# Altium integrated library mylib1.IntLib: 209 symbols
Pins are listed as number, name and electrical type; pins without a type are passive.

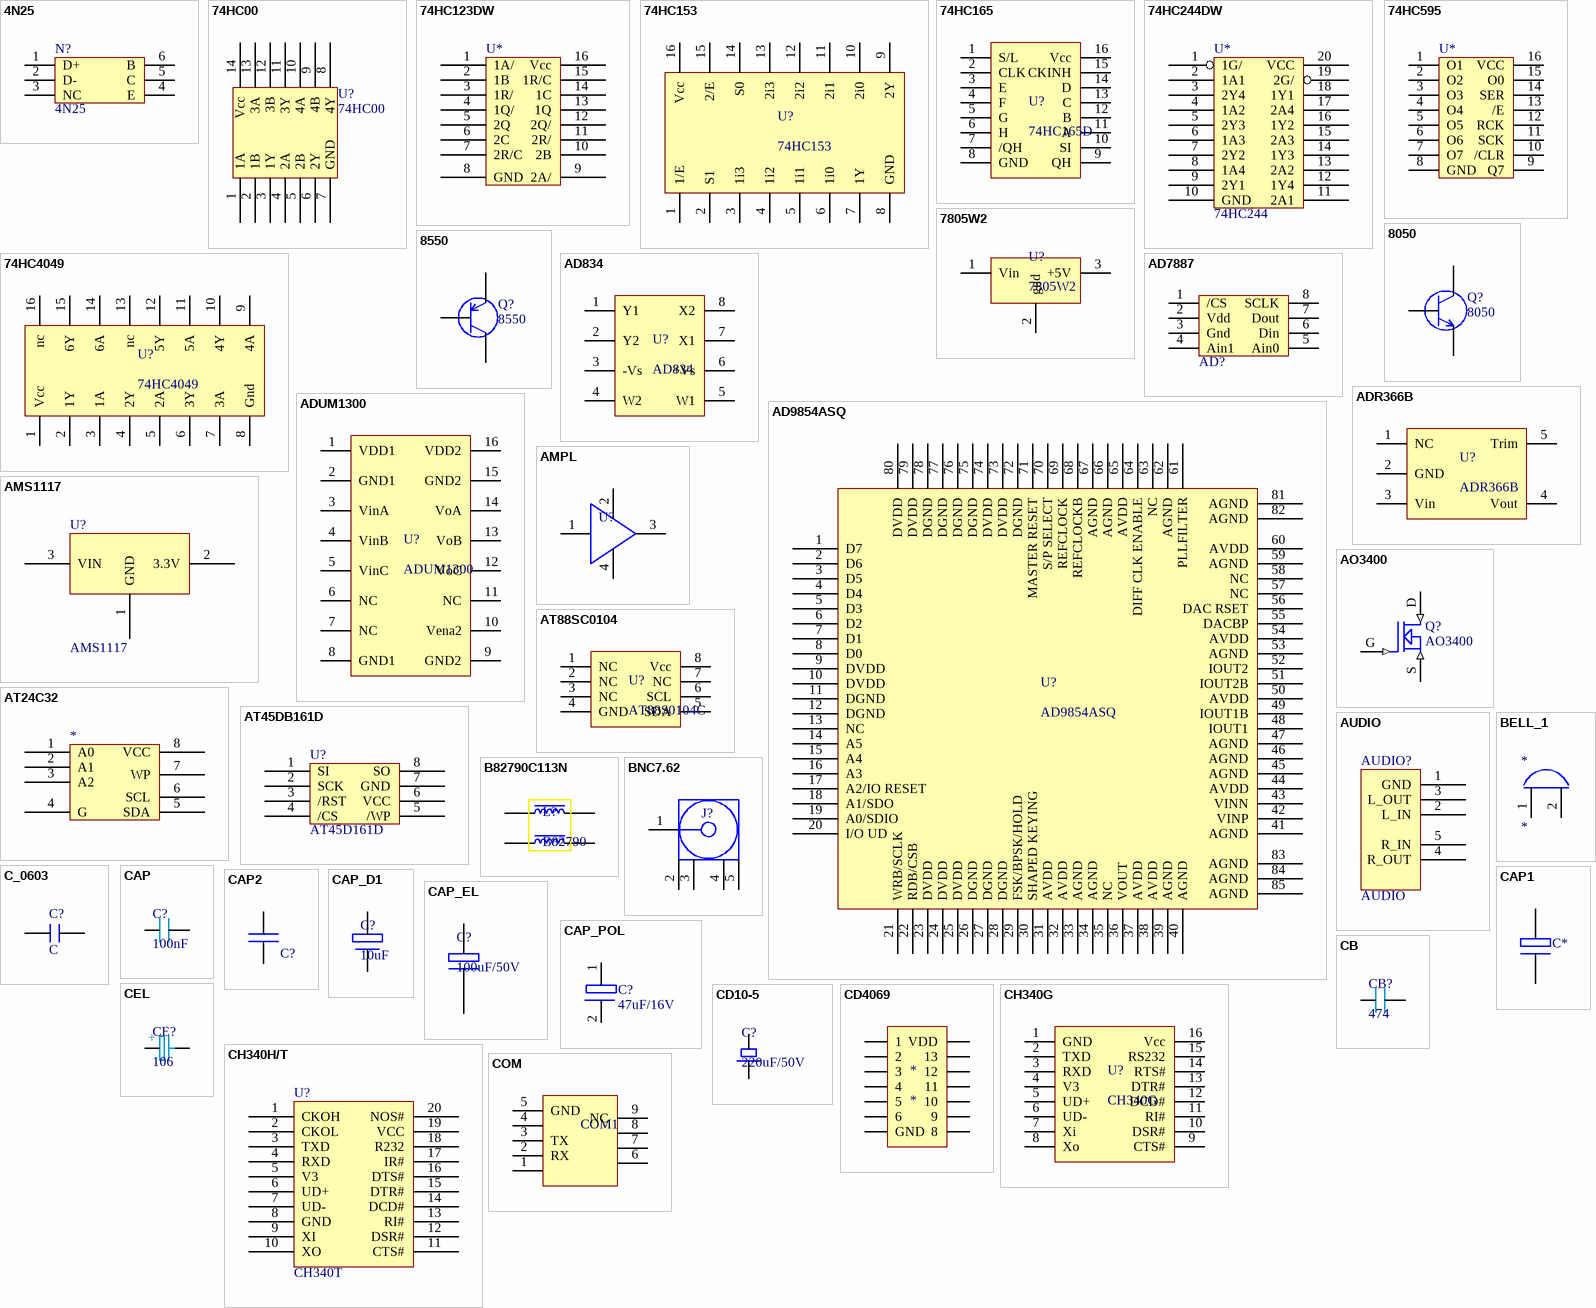
[diagram p0: symbols 4N25 to COM]

## 4N25
designator N?
footprint DIP6
pins: 1 D+, 2 D-, 3 NC, 4 E, 5 C, 6 B

## 74HC00
designator U?
footprint SO-G14
pins: 1 1A, 2 1B, 3 1Y, 4 2A, 5 2B, 6 2Y, 7 GND, 8 4Y, 9 4B, 10 4A, 11 3Y, 12 3B, 13 3A, 14 Vcc

## 74HC123DW
designator U*
footprint SOP16
pins: 1 1A/, 2 1B, 3 1R/, 4 1Q/, 5 2Q, 6 2C, 7 2R/C, 8 GND, 9 2A/, 10 2B, 11 2R/, 12 2Q/, 13 1Q, 14 1C, 15 1R/C, 16 Vcc

## 74HC153
designator U?
footprint SOP16
pins: 1 1/E, 2 S1, 3 1i3, 4 1i2, 5 1i1, 6 1i0, 7 1Y, 8 GND, 9 2Y, 10 2i0, 11 2i1, 12 2i2, 13 2i3, 14 S0, 15 2/E, 16 Vcc

## 74HC165
designator U?, comment 74HC165D
footprint SOP16
pins: 1 S/L, 2 CLK, 3 E, 4 F, 5 G, 6 H, 7 /QH, 8 GND, 9 QH, 10 SI, 11 A, 12 B, 13 C, 14 D, 15 CKINH, 16 Vcc

## 74HC244DW
designator U*, comment 74HC244
footprint SOP20
pins: 1 1G/, 2 1A1, 3 2Y4, 4 1A2, 5 2Y3, 6 1A3, 7 2Y2, 8 1A4, 9 2Y1, 10 GND, 11 2A1, 12 1Y4, 13 2A2, 14 1Y3, 15 2A3, 16 1Y2, 17 2A4, 18 1Y1, 19 2G/, 20 VCC

## 74HC595
designator U*
footprint SOP16
pins: 1 O1, 2 O2, 3 O3, 4 O4, 5 O5, 6 O6, 7 O7, 8 GND, 9 Q7, 10 /CLR, 11 SCK, 12 RCK, 13 /E, 14 SER, 15 O0, 16 VCC

## 74HC4049
designator U?
footprint SOP16
pins: 1 Vcc, 2 1Y, 3 1A, 4 2Y, 5 2A, 6 3Y, 7 3A, 8 Gnd, 9 4A, 10 4Y, 11 5A, 12 5Y, 13 nc, 14 6A, 15 6Y, 16 nc

## 7805W2
designator U?
footprint 7805W2
pins: 1 Vin, 2 gnd, 3 +5V

## 8050
designator Q?
footprint SOT23_NPN
pins: 1 B, 2 C, 3 E

## 8550
designator Q?
footprint SOT23_NPN
pins: 1 b, 2 c, 3 e

## AD834
designator U?
footprint DIP8
pins: 1 Y1, 2 Y2, 3 -Vs, 4 W2, 5 W1, 6 +Vs, 7 X1, 8 X2

## AD7887
designator AD?
footprint SOP8
pins: 1 /CS, 2 Vdd, 3 Gnd, 4 Ain1, 5 Ain0, 6 Din, 7 Dout, 8 SCLK

## AD9854ASQ
designator U?
footprint QFP65P1800X1800X245_HS-80M (QFP, 80-Leads, Body 18.0x18.0mm (max), Pitch 0.65mm, IPC Low Density)
pins: 1 D7, 2 D6, 3 D5, 4 D4, 5 D3, 6 D2, 7 D1, 8 D0, 9 DVDD, 10 DVDD, 11 DGND, 12 DGND, 13 NC, 14 A5, 15 A4, 16 A3, 17 A2/IO RESET, 18 A1/SDO, 19 A0/SDIO, 20 I/O UD, 21 WRB/SCLK, 22 RDB/CSB, 23 DVDD, 24 DVDD, 25 DVDD, 26 DGND, 27 DGND, 28 DGND, 29 FSK/BPSK/HOLD, 30 SHAPED KEYING, 31 AVDD, 32 AVDD, 33 AGND, 34 AGND, 35 NC, 36 VOUT, 37 AVDD, 38 AVDD, 39 AGND, 40 AGND, 41 AGND, 42 VINP, 43 VINN, 44 AVDD, 45 AGND, 46 AGND, 47 AGND, 48 IOUT1, 49 IOUT1B, 50 AVDD, 51 IOUT2B, 52 IOUT2, 53 AGND, 54 AVDD, 55 DACBP, 56 DAC RSET, 57 NC, 58 NC, 59 AGND, 60 AVDD, 61 PLLFILTER, 62 AGND, 63 NC, 64 DIFF CLK ENABLE, 65 AVDD, 66 AGND, 67 AGND, 68 REFCLOCKB, 69 REFCLOCK, 70 S/P SELECT, 71 MASTER RESET, 72 DGND, 73 DVDD, 74 DVDD, 75 DGND, 76 DGND, 77 DGND, 78 DGND, 79 DVDD, 80 DVDD, 81 AGND, 82 AGND, 83 AGND, 84 AGND, 85 AGND

## ADR366B
designator U?
footprint TSOT5
pins: 1 NC, 2 GND, 3 Vin, 4 Vout, 5 Trim

## ADUM1300
designator U?
footprint SOW-16
pins: 1 VDD1, 2 GND1, 3 VinA, 4 VinB, 5 VinC, 6 NC, 7 NC, 8 GND1, 9 GND2, 10 Vena2, 11 NC, 12 VoC, 13 VoB, 14 VoA, 15 GND2, 16 VDD2

## AMPL
designator U?  (value not drawn)
footprint AMP
pins: 1, 2, 3, 4

## AMS1117
designator U?
footprint SOT-223
pins: 1 GND, 2 3.3V, 3 VIN

## AO3400
designator Q?
footprint SOT-23NMOS
pins: D (in), G (in), S (in)

## AT24C32
designator *
footprint SOP8
pins: 1 A0, 2 A1, 3 A2, 4 G, 5 SDA, 6 SCL, 7 WP, 8 VCC

## AT45DB161D
designator U?, comment AT45D161D
footprint SOP8_AT
pins: 1 SI, 2 SCK, 3 /RST, 4 /CS, 5 /WP, 6 VCC, 7 GND, 8 SO

## AT88SC0104
designator U?, comment AT88S0104C
footprint SOP8
pins: 1 NC, 2 NC, 3 NC, 4 GND, 5 SDA, 6 SCL, 7 NC, 8 Vcc

## AUDIO
designator AUDIO?
footprint AUDIO_PCB
pins: 1 GND, 2 L_IN, 3 L_OUT, 4 R_OUT, 5 R_IN

## B82790C113N
designator L?, comment B82790
footprint B82790
pins: 1, 2, 3, 4

## BELL_1
designator *
footprint BELL_1
pins: 1, 2

## BNC7.62
designator J?
footprint BNC7.62
pins: 1, 2, 3, 4, 5

## C_0603
designator C?, comment C
footprint Cap_0603
pins: 1, 2

## CAP
designator C?, comment 100nF
footprint C0805
pins: 1, 2

## CAP1
designator C*
footprint CAP1
pins: 1, 2

## CAP2
designator C?
footprint Cap0805
pins: 1, 2

## CAP_D1
designator C?, comment 10uF
footprint CAP_D1
pins: 1, 2

## CAP_EL
designator C?, comment 100uF/50V
footprint CAP_2.54
pins: 1, 2

## CAP_POL
designator C?, comment 47uF/16V
footprint CAP_POL1
pins: 1, 2

## CB
designator CB?, comment 474
footprint C_1206
pins: 1, 2

## CD10-5
designator C?, comment 220uF/50V
footprint CD10-5
pins: 1, 2

## CD4069
designator *
footprint SO-G14
pins: 1, 2, 3, 4, 5, 6, 7 GND, 8, 9, 10, 11, 12, 13, 14 VDD

## CEL
designator CE?, comment 106
footprint CEL_1206
pins: 1, 2
text: +

## CH340G
designator U?
footprint SOP16
pins: 1 GND, 2 TXD, 3 RXD, 4 V3, 5 UD+, 6 UD-, 7 Xi, 8 Xo, 9 CTS#, 10 DSR#, 11 RI#, 12 DCD#, 13 DTR#, 14 RTS#, 15 RS232, 16 Vcc

## CH340H/T
designator U?, comment CH340T
footprint SSOP20-G20/P0.65
pins: 1 CKOH, 2 CKOL, 3 TXD, 4 RXD, 5 V3, 6 UD+, 7 UD-, 8 GND, 9 XI, 10 XO, 11 CTS#, 12 DSR#, 13 RI#, 14 DCD#, 15 DTR#, 16 DTS#, 17 IR#, 18 R232, 19 VCC, 20 NOS#

## COM
designator COM1  (value not drawn)
footprint DB9G
pins: 1, 2 RX, 3 TX, 4, 5 GND, 6, 7, 8, 9 NC

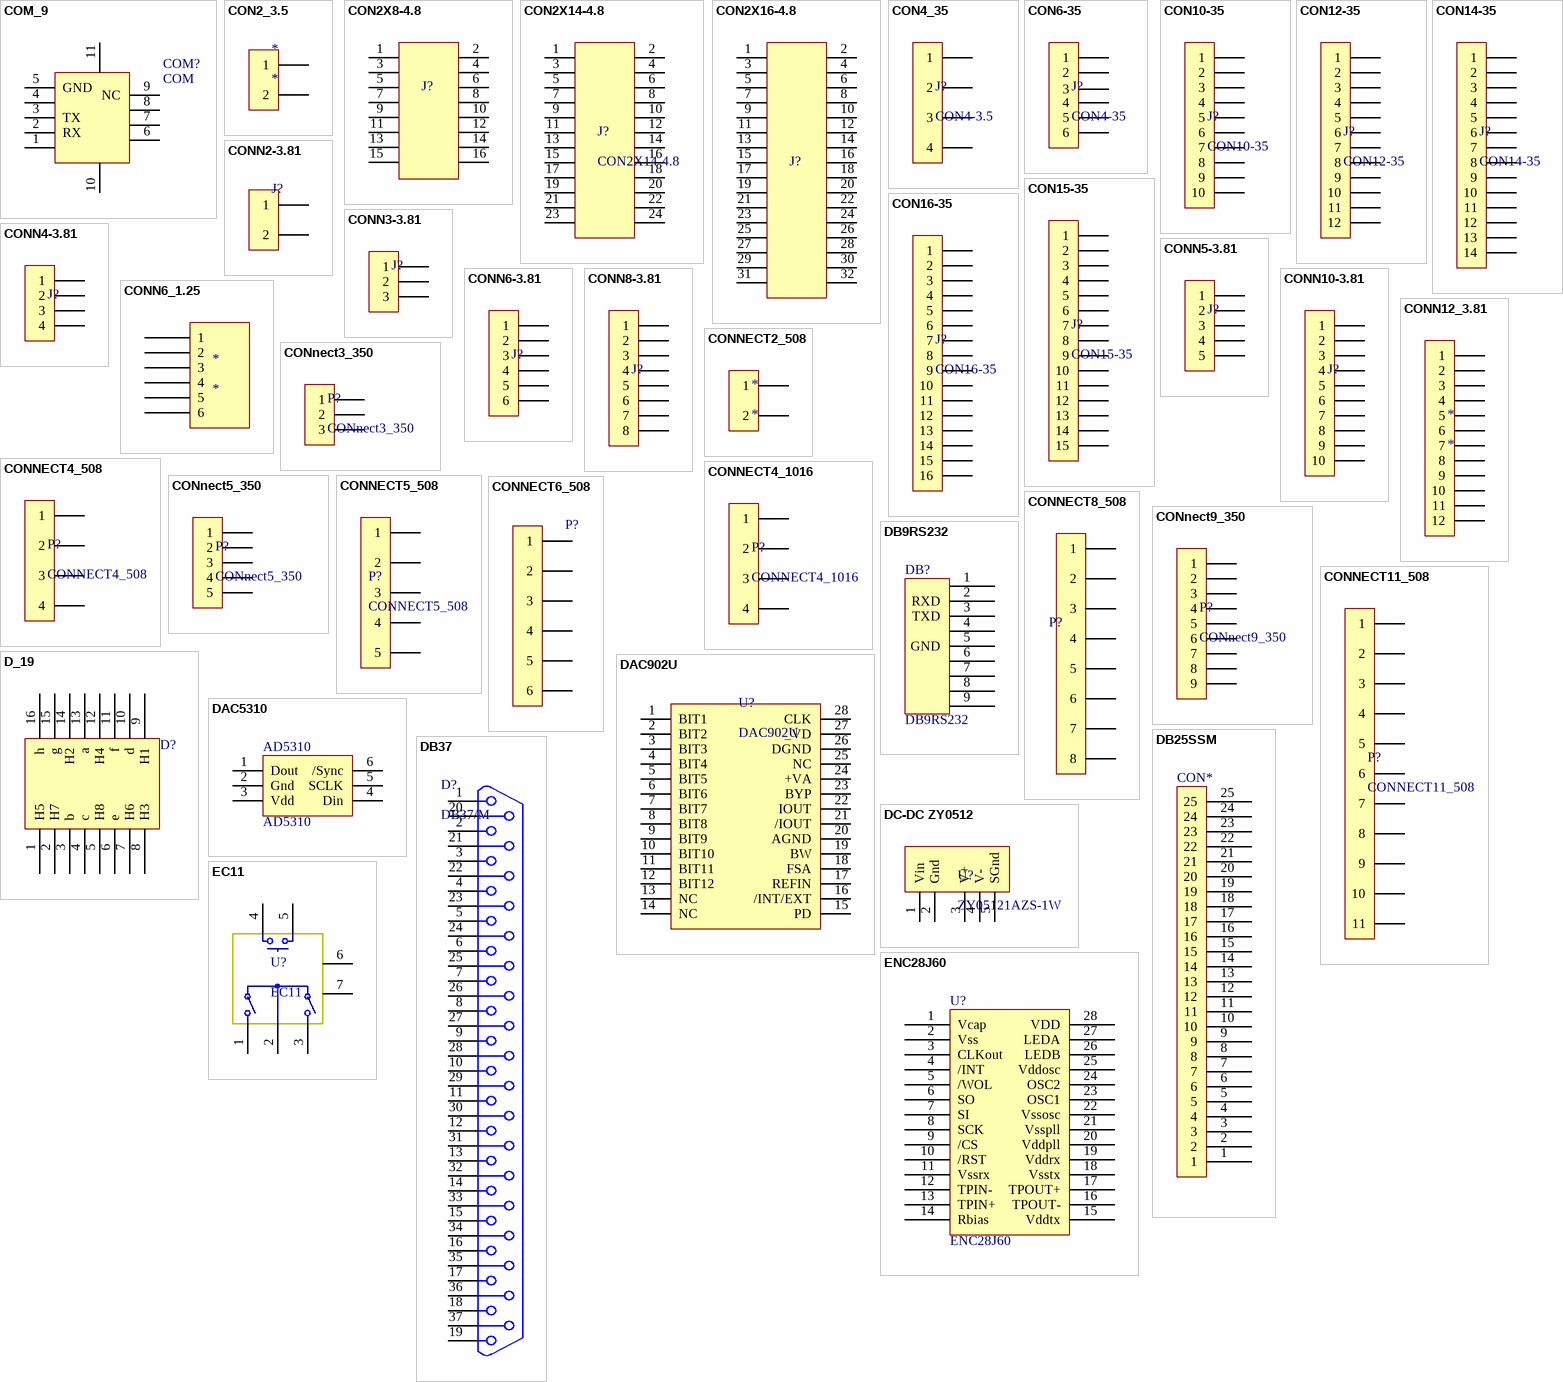
[diagram p1: symbols COM_9 to ENC28J60]

## COM_9
designator COM?, comment COM
footprint DB9_M
pins: 1, 2 RX, 3 TX, 4, 5 GND, 6, 7, 8, 9 NC, 10, 11

## CON2_3.5
designator *
footprint CON2_350_PCB
pins: 1, 2

## CON2X8-4.8
designator J?  (value not drawn)
footprint CON2X8-4.8
pins: 1, 2, 3, 4, 5, 6, 7, 8, 9, 10, 11, 12, 13, 14, 15, 16

## CON2X14-4.8
designator J?
footprint CON2X14_4.8
pins: 1, 2, 3, 4, 5, 6, 7, 8, 9, 10, 11, 12, 13, 14, 15, 16, 17, 18, 19, 20, 21, 22, 23, 24

## CON2X16-4.8
designator J?  (value not drawn)
footprint CON2X16-4.8
pins: 1, 2, 3, 4, 5, 6, 7, 8, 9, 10, 11, 12, 13, 14, 15, 16, 17, 18, 19, 20, 21, 22, 23, 24, 25, 26, 27, 28, 29, 30, 31, 32

## CON4_35
designator J?, comment CON4-3.5
footprint CON4-35-PCB
pins: 1, 2, 3, 4

## CON6-35
designator J?, comment CON4-35
footprint CON6-35-PCB
pins: 1, 2, 3, 4, 5, 6

## CON10-35
designator J?
footprint CON10-35-PCB
pins: 1, 2, 3, 4, 5, 6, 7, 8, 9, 10

## CON12-35
designator J?
footprint CON12-35-PCB
pins: 1, 2, 3, 4, 5, 6, 7, 8, 9, 10, 11, 12

## CON14-35
designator J?
footprint CON14-35-PCB
pins: 1, 2, 3, 4, 5, 6, 7, 8, 9, 10, 11, 12, 13, 14

## CON15-35
designator J?
footprint CON15-35-PCB
pins: 1, 2, 3, 4, 5, 6, 7, 8, 9, 10, 11, 12, 13, 14, 15

## CON16-35
designator J?
footprint CON16-35-PCB
pins: 1, 2, 3, 4, 5, 6, 7, 8, 9, 10, 11, 12, 13, 14, 15, 16

## CONN2-3.81
designator J?
footprint CONN2-3.81
pins: 1, 2

## CONN3-3.81
designator J?
footprint CONN3-3.81
pins: 1, 2, 3

## CONN4-3.81
designator J?
footprint CONN4-3.81
pins: 1, 2, 3, 4

## CONN5-3.81
designator J?
footprint CONN5-3.81
pins: 1, 2, 3, 4, 5

## CONN6-3.81
designator J?
footprint CONN6-3.81
pins: 1, 2, 3, 4, 5, 6

## CONN6_1.25
designator *
footprint PIN6_125 (SOP, 12-Leads, Body 12.80x4.40mm, Pitch 1.25mm, IPC Medium Density)
pins: 1, 2, 3, 4, 5, 6

## CONN8-3.81
designator J?
footprint CONN8-3.81
pins: 1, 2, 3, 4, 5, 6, 7, 8

## CONN10-3.81
designator J?
footprint CONN10-3.81
pins: 1, 2, 3, 4, 5, 6, 7, 8, 9, 10

## CONN12_3.81
designator *
footprint CONN12-3.81
pins: 1, 2, 3, 4, 5, 6, 7, 8, 9, 10, 11, 12

## CONNECT2_508
designator *
footprint CON2_508
pins: 1, 2

## CONnect3_350
designator P?
footprint CON3_350
pins: 1, 2, 3

## CONNECT4_508
designator P?
footprint CON4_508
pins: 1, 2, 3, 4

## CONNECT4_1016
designator P?
footprint CON4_1016
pins: 1, 2, 3, 4

## CONnect5_350
designator P?
footprint CON5_350
pins: 1, 2, 3, 4, 5

## CONNECT5_508
designator P?
footprint CON5_508
pins: 1, 2, 3, 4, 5

## CONNECT6_508
designator P?, comment CONNECT8_508  (value not drawn)
footprint CON6_508
pins: 1, 2, 3, 4, 5, 6

## CONNECT8_508
designator P?  (value not drawn)
footprint CON8_508
pins: 1, 2, 3, 4, 5, 6, 7, 8

## CONnect9_350
designator P?
footprint CON9_350
pins: 1, 2, 3, 4, 5, 6, 7, 8, 9

## CONNECT11_508
designator P?
footprint CON11_508
pins: 1, 2, 3, 4, 5, 6, 7, 8, 9, 10, 11

## D_19
designator D?
footprint D19_PCB
pins: 1 H5, 2 H7, 3 b, 4 c, 5 H8, 6 e, 7 H6, 8 H3, 9 H1, 10 d, 11 f, 12 H4, 13 a, 14 H2, 15 g, 16 h

## DAC902U
designator U?
footprint SOP28_300
pins: 1 BIT1, 2 BIT2, 3 BIT3, 4 BIT4, 5 BIT5, 6 BIT6, 7 BIT7, 8 BIT8, 9 BIT9, 10 BIT10, 11 BIT11, 12 BIT12, 13 NC, 14 NC, 15 PD, 16 /INT/EXT, 17 REFIN, 18 FSA, 19 BW, 20 AGND, 21 /IOUT, 22 IOUT, 23 BYP, 24 +VA, 25 NC, 26 DGND, 27 _VD, 28 CLK

## DAC5310
designator AD5310, comment AD5310
footprint SOT-23_IC
pins: 1 Dout, 2 Gnd, 3 Vdd, 4 Din, 5 SCLK, 6 /Sync

## DB9RS232
designator DB?
footprint DB9SM
pins: 1, 2 RXD, 3 TXD, 4, 5 GND, 6, 7, 8, 9

## DB25SSM
designator CON*
footprint DB25SIM
pins: 1, 2, 3, 4, 5, 6, 7, 8, 9, 10, 11, 12, 13, 14, 15, 16, 17, 18, 19, 20, 21, 22, 23, 24, 25

## DB37
designator D?, comment DB37/M
footprint DB37RA/M
pins: 1, 2, 3, 4, 5, 6, 7, 8, 9, 10, 11, 12, 13, 14, 15, 16, 17, 18, 19, 20, 21, 22, 23, 24, 25, 26, 27, 28, 29, 30, 31, 32, 33, 34, 35, 36, 37

## DC-DC ZY0512
designator U?, comment ZY05121AZS-1W
footprint ZY05121AKS-1W
pins: 1 Vin, 2 Gnd, 3 V+, 4 V-, 5 SGnd

## EC11
designator U?
footprint EC11
pins: 1, 2, 3, 4, 5, 6, 7

## ENC28J60
designator U?
footprint SOP28_300
pins: 1 Vcap, 2 Vss, 3 CLKout, 4 /INT, 5 /WOL, 6 SO, 7 SI, 8 SCK, 9 /CS, 10 /RST, 11 Vssrx, 12 TPIN-, 13 TPIN+, 14 Rbias, 15 Vddtx, 16 TPOUT-, 17 TPOUT+, 18 Vsstx, 19 Vddrx, 20 Vddpll, 21 Vsspll, 22 Vssosc, 23 OSC1, 24 OSC2, 25 Vddosc, 26 LEDB, 27 LEDA, 28 VDD

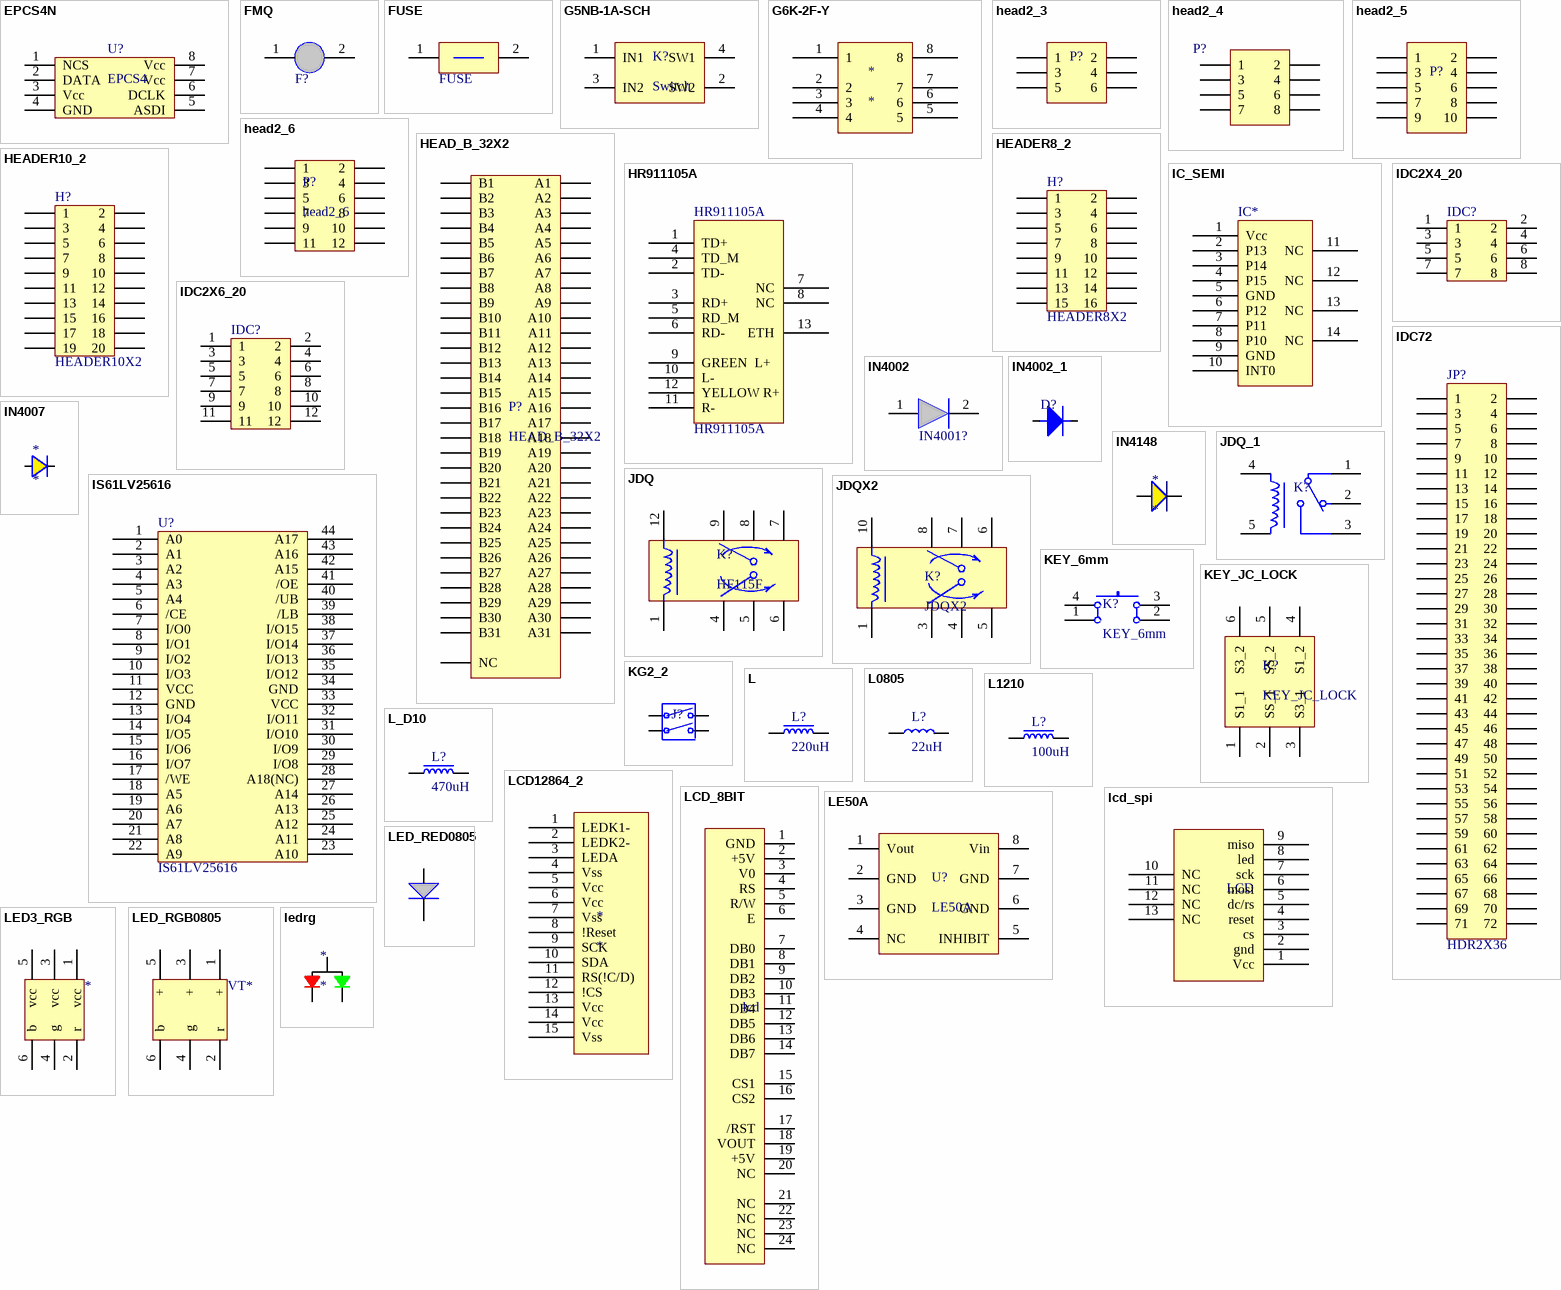
[diagram p2: symbols EPCS4N to ledrg]

## EPCS4N
designator U?, comment EPCS4
footprint SOP8
pins: 1 NCS, 2 DATA, 3 Vcc, 4 GND, 5 ASDI, 6 DCLK, 7 Vcc, 8 Vcc

## FMQ
designator F?
footprint FMQ
pins: 1, 2

## FUSE
designator FUSE
footprint FUSE
pins: 1, 2

## G5NB-1A-SCH
designator K?, comment Switch
footprint G5NB-1A-PCB
pins: 1 IN1, 2 SW2, 3 IN2, 4 SW1

## G6K-2F-Y
designator *
footprint G6K-2F-Y
pins: 1, 2, 3, 4, 5, 6, 7, 8

## head2_3
designator P?  (value not drawn)
footprint head2-3
pins: 1, 2, 3, 4, 5, 6

## head2_4
designator P?  (value not drawn)
footprint HEAD2_4
pins: 1, 2, 3, 4, 5, 6, 7, 8

## head2_5
designator P?  (value not drawn)
footprint head2-5
pins: 1, 2, 3, 4, 5, 6, 7, 8, 9, 10

## head2_6
designator P?
footprint HEAD2_6
pins: 1, 2, 3, 4, 5, 6, 7, 8, 9, 10, 11, 12

## HEAD_B_32X2
designator P?
footprint HEAD_B2X32
pins: 0 NC, 1 B1, 2 A1, 3 B2, 4 A2, 5 B3, 6 A3, 7 B4, 8 A4, 9 B5, 10 A5, 11 B6, 12 A6, 13 B7, 14 A7, 15 B8, 16 A8, 17 B9, 18 A9, 19 B10, 20 A10, 21 B11, 22 A11, 23 B12, 24 A12, 25 B13, 26 A13, 27 B14, 28 A14, 29 B15, 30 A15, 31 B16, 32 A16, 33 B17, 34 A17, 35 B18, 36 A18, 37 B19, 38 A19, 39 B20, 40 A20, 41 B21, 42 A21, 43 B22, 44 A22, 45 B23, 46 A23, 47 B24, 48 A24, 49 B25, 50 A25, 51 B26, 52 A26, 53 B27, 54 A27, 55 B28, 56 A28, 57 B29, 58 A29, 59 B30, 60 A30, 61 B31, 62 A31

## HEADER8_2
designator H?, comment HEADER8X2
footprint IDC16
pins: 1, 2, 3, 4, 5, 6, 7, 8, 9, 10, 11, 12, 13, 14, 15, 16

## HEADER10_2
designator H?, comment HEADER10X2
footprint IDC20B
pins: 1, 2, 3, 4, 5, 6, 7, 8, 9, 10, 11, 12, 13, 14, 15, 16, 17, 18, 19, 20

## HR911105A
designator HR911105A
footprint HR911105A
footprint HR911105A
pins: 1 TD+, 2 TD-, 3 RD+, 4 TD_M, 5 RD_M, 6 RD-, 7 NC, 8 NC, 9 GREEN  L+, 10 L-, 11 R-, 12 YELLOW R+, 13 ETH

## IC_SEMI
designator IC*
footprint IC_SEMI
pins: 1 Vcc, 2 P13, 3 P14, 4 P15, 5 GND, 6 P12, 7 P11, 8 P10, 9 GND, 10 INT0, 11 NC, 12 NC, 13 NC, 14 NC

## IDC2X4_20
designator IDC?
footprint IDC2X4_20
pins: 1, 2, 3, 4, 5, 6, 7, 8

## IDC2X6_20
designator IDC?
footprint IDC2X6_20
pins: 1, 2, 3, 4, 5, 6, 7, 8, 9, 10, 11, 12

## IDC72
designator JP?, comment HDR2X36
footprint IDC72
pins: 1, 2, 3, 4, 5, 6, 7, 8, 9, 10, 11, 12, 13, 14, 15, 16, 17, 18, 19, 20, 21, 22, 23, 24, 25, 26, 27, 28, 29, 30, 31, 32, 33, 34, 35, 36, 37, 38, 39, 40, 41, 42, 43, 44, 45, 46, 47, 48, 49, 50, 51, 52, 53, 54, 55, 56, 57, 58, 59, 60, 61, 62, 63, 64, 65, 66, 67, 68, 69, 70, 71, 72

## IN4002
designator IN4001?, comment IN4001  (value not drawn)
footprint DO-214
pins: 1, 2

## IN4002_1
designator D?, comment 4001  (value not drawn)
footprint D7227
pins: 1, 2

## IN4007
designator *
footprint SODFL504X244-2N (SODFL, 2-Leads, Body 2.70x5.04mm, IPC Medium Density)
pins: 1, 2

## IN4148
designator *
footprint IN4148
pins: 1, 2

## IS61LV25616
designator U?
footprint TSOP44
pins: 1 A0, 2 A1, 3 A2, 4 A3, 5 A4, 6 /CE, 7 I/O0, 8 I/O1, 9 I/O2, 10 I/O3, 11 VCC, 12 GND, 13 I/O4, 14 I/O5, 15 I/O6, 16 I/O7, 17 /WE, 18 A5, 19 A6, 20 A7, 21 A8, 22 A9, 23 A10, 24 A11, 25 A12, 26 A13, 27 A14, 28 A18(NC), 29 I/O8, 30 I/O9, 31 I/O10, 32 I/O11, 33 VCC, 34 GND, 35 I/O12, 36 I/O13, 37 I/O14, 38 I/O15, 39 /LB, 40 /UB, 41 /OE, 42 A15, 43 A16, 44 A17

## JDQ
designator K?, comment HF115F
footprint DIP12-JDQ
pins: 1, 4, 5, 6, 7, 8, 9, 12

## JDQ_1
designator K?
footprint RLY-JZC7FF
pins: 1, 2, 3, 4, 5

## JDQX2
designator K?
footprint JDQX2
pins: 1, 3, 4, 5, 6, 7, 8, 10

## KEY_6mm
designator K?
footprint KEY
pins: 1, 2, 3, 4

## KEY_JC_LOCK
designator K?
footprint KEY_JC_LOCK
pins: 1 S1_1, 2 SS_1, 3 S3_1, 4 S1_2, 5 SS_2, 6 S3_2

## KG2_2
designator J?  (value not drawn)
footprint DIP4
pins: 1, 2, 3, 4

## L
designator L?, comment 220uH
footprint L12
pins: 1, 2

## L0805
designator L?, comment 22uH
footprint L0805
pins: 1, 2

## L1210
designator L?, comment 100uH
footprint 1210
pins: 1, 2

## L_D10
designator L?, comment 470uH
footprint L_D10
pins: 1, 2

## LCD12864_2
designator *
footprint lcd12864_2
pins: 1 LEDK1-, 2 LEDK2-, 3 LEDA, 4 Vss, 5 Vcc, 6 Vcc, 7 Vss, 8 !Reset, 9 SCK, 10 SDA, 11 RS(!C/D), 12 !CS, 13 Vcc, 14 Vcc, 15 Vss

## LCD_8BIT
designator lcd  (value not drawn)
footprint lcd
pins: 1 GND, 2 +5V, 3 V0, 4 RS, 5 R/W, 6 E, 7 DB0, 8 DB1, 9 DB2, 10 DB3, 11 DB4, 12 DB5, 13 DB6, 14 DB7, 15 CS1, 16 CS2, 17 /RST, 18 VOUT, 19 +5V, 20 NC, 21 NC, 22 NC, 23 NC, 24 NC

## lcd_spi
designator LCD
footprint LCD_SPI
pins: 1 Vcc, 2 gnd, 3 cs, 4 reset, 5 dc/rs, 6 mosi, 7 sck, 8 led, 9 miso, 10 NC, 11 NC, 12 NC, 13 NC

## LE50A
designator U?
footprint SOP8
pins: 1 Vout, 2 GND, 3 GND, 4 NC, 5 INHIBIT, 6 GND, 7 GND, 8 Vin

## LED3_RGB
designator *
footprint led6mm_3
pins: 1 vcc, 2 r, 3 vcc, 4 g, 5 vcc, 6 b

## LED_RED0805
designator L*
footprint led_0805z
pins: 1 +, 2 -

## LED_RGB0805
designator VT*
footprint led_0805
pins: 1 +, 2 r, 3 +, 4 g, 5 +, 6 b

## ledrg
designator *
pins: 1, 2, 3

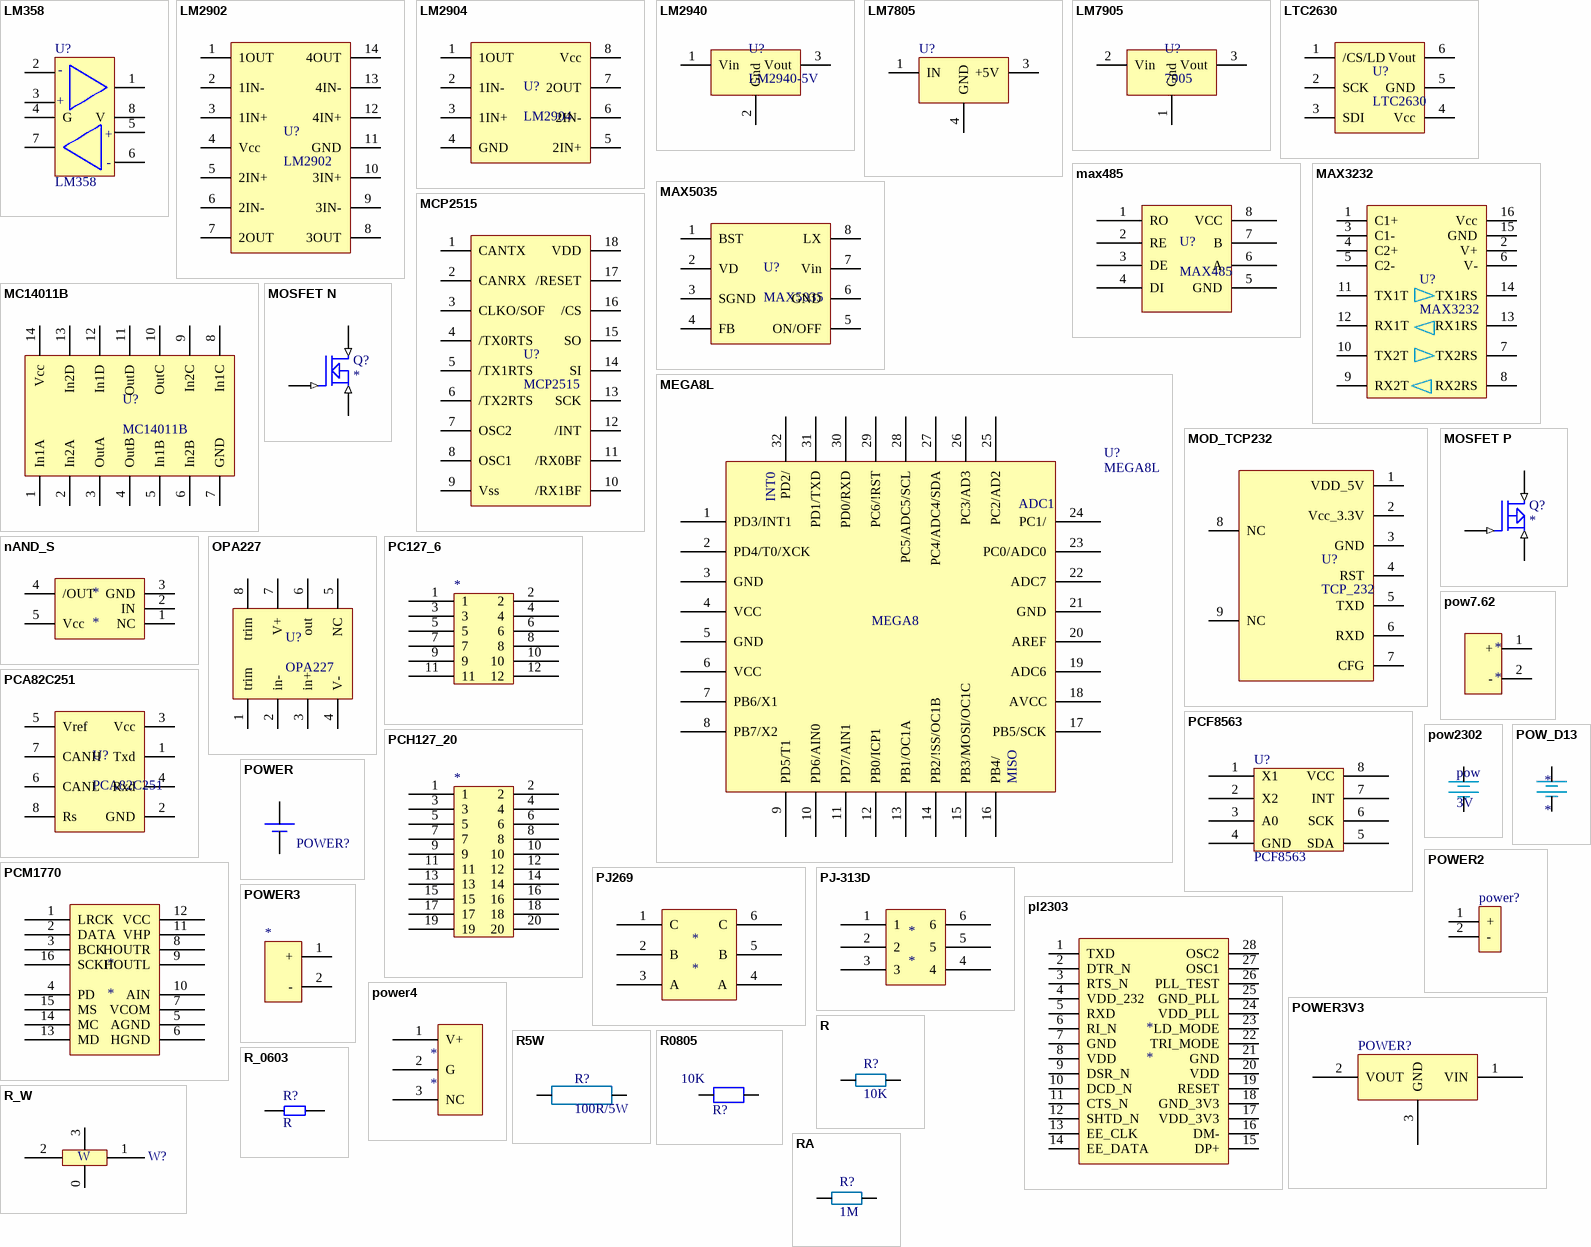
[diagram p3: symbols LM358 to RA]

## LM358
designator U?
footprint SOP8
pins: 1 O, 2 -, 3 +, 4 G, 5 +, 6 -, 7 O, 8 V

## LM2902
designator U?
footprint SO14-G
pins: 1 1OUT, 2 1IN-, 3 1IN+, 4 Vcc, 5 2IN+, 6 2IN-, 7 2OUT, 8 3OUT, 9 3IN-, 10 3IN+, 11 GND, 12 4IN+, 13 4IN-, 14 4OUT

## LM2904
designator U?
footprint SOP8
pins: 1 1OUT, 2 1IN-, 3 1IN+, 4 GND, 5 2IN+, 6 2IN-, 7 2OUT, 8 Vcc

## LM2940
designator U?, comment LM2940-5V
footprint LM2940
pins: 1 Vin, 2 Gnd, 3 Vout

## LM7805
designator U?
footprint DPAK_G3
pins: 1 IN, 3 +5V, 4 GND

## LM7905
designator U?, comment 7905
footprint LM2940
pins: 1 Gnd, 2 Vin, 3 Vout

## LTC2630
designator U?
footprint SC6
pins: 1 /CS/LD, 2 SCK, 3 SDI, 4 Vcc, 5 GND, 6 Vout

## max485
designator U?, comment MAX485
footprint DIP8
pins: 1 RO, 2 RE, 3 DE, 4 DI, 5 GND, 6 A, 7 B, 8 VCC

## MAX3232
designator U?
footprint SOP16
pins: 1 C1+, 2 V+, 3 C1-, 4 C2+, 5 C2-, 6 V-, 7 TX2RS, 8 RX2RS, 9 RX2T, 10 TX2T, 11 TX1T, 12 RX1T, 13 RX1RS, 14 TX1RS, 15 GND, 16 Vcc

## MAX5035
designator U?
footprint SOP8
pins: 1 BST, 2 VD, 3 SGND, 4 FB, 5 ON/OFF, 6 GND, 7 Vin, 8 LX

## MC14011B
designator U?
footprint SO-G14
pins: 1 In1A, 2 In2A, 3 OutA, 4 OutB, 5 In1B, 6 In2B, 7 GND, 8 In1C, 9 In2C, 10 OutC, 11 OutD, 12 In1D, 13 In2D, 14 Vcc

## MCP2515
designator U?
footprint SOW-18
pins: 1 CANTX, 2 CANRX, 3 CLKO/SOF, 4 /TX0RTS, 5 /TX1RTS, 6 /TX2RTS, 7 OSC2, 8 OSC1, 9 Vss, 10 /RX1BF, 11 /RX0BF, 12 /INT, 13 SCK, 14 SI, 15 SO, 16 /CS, 17 /RESET, 18 VDD

## MEGA8L
designator U?
footprint TQPF32
pins: 1 PD3/INT1, 2 PD4/T0/XCK, 3 GND, 4 VCC, 5 GND, 6 VCC, 7 PB6/X1, 8 PB7/X2, 9 PD5/T1, 10 PD6/AIN0, 11 PD7/AIN1, 12 PB0/ICP1, 13 PB1/OC1A, 14 PB2/!SS/OC1B, 15 PB3/MOSI/OC1C, 16 PB4/, 17 PB5/SCK, 18 AVCC, 19 ADC6, 20 AREF, 21 GND, 22 ADC7, 23 PC0/ADC0, 24 PC1/, 25 PC2/AD2, 26 PC3/AD3, 27 PC4/ADC4/SDA, 28 PC5/ADC5/SCL, 29 PC6/!RST, 30 PD0/RXD, 31 PD1/TXD, 32 PD2/
text: INT0; ADC1; MEGA8; MISO

## MOD_TCP232
designator U?, comment TCP_232
footprint Mod_TCP232
pins: 1 VDD_5V, 2 Vcc_3.3V, 3 GND, 4 RST, 5 TXD, 6 RXD, 7 CFG, 8 NC, 9 NC

## MOSFET N
designator Q?
pins: 1 G (in), 2 D (in), 3 S (in)

## MOSFET P
designator Q?
pins: 1 G (in), 2 D (in), 3 S (in)

## nAND_S
designator *
pins: 1 NC, 2 IN, 3 GND, 4 /OUT, 5 Vcc

## OPA227
designator U?
footprint SOP8
pins: 1 trim, 2 in-, 3 in+, 4 V-, 5 NC, 6 out, 7 V+, 8 trim

## PC127_6
designator *
footprint PCH127_12B
pins: 1, 2, 3, 4, 5, 6, 7, 8, 9, 10, 11, 12

## PCA82C251
designator U?
footprint SOP8
pins: 1 Txd, 2 GND, 3 Vcc, 4 Rxd, 5 Vref, 6 CANL, 7 CANH, 8 Rs

## PCF8563
designator U?
footprint SOP8
pins: 1 X1, 2 X2, 3 A0, 4 GND, 5 SDA, 6 SCK, 7 INT, 8 VCC

## PCH127_20
designator *
footprint PCH127_20B
pins: 1, 2, 3, 4, 5, 6, 7, 8, 9, 10, 11, 12, 13, 14, 15, 16, 17, 18, 19, 20

## PCM1770
designator *
footprint PCM1770
pins: 1 LRCK, 2 DATA, 3 BCK, 4 PD, 5 AGND, 6 HGND, 7 VCOM, 8 HOUTR, 9 HOUTL, 10 AIN, 11 VHP, 12 VCC, 13 MD, 14 MC, 15 MS, 16 SCKI

## PJ269
designator *
footprint PJ269
pins: 1 C, 2 B, 3 A, 4 A, 5 B, 6 C

## PJ-313D
designator *
footprint PJ-313D
pins: 1, 2, 3, 4, 5, 6

## pl2303
designator *
footprint SSOP28
pins: 1 TXD, 2 DTR_N, 3 RTS_N, 4 VDD_232, 5 RXD, 6 RI_N, 7 GND, 8 VDD, 9 DSR_N, 10 DCD_N, 11 CTS_N, 12 SHTD_N, 13 EE_CLK, 14 EE_DATA, 15 DP+, 16 DM-, 17 VDD_3V3, 18 GND_3V3, 19 RESET, 20 VDD, 21 GND, 22 TRI_MODE, 23 LD_MODE, 24 VDD_PLL, 25 GND_PLL, 26 PLL_TEST, 27 OSC1, 28 OSC2

## pow7.62
designator *
footprint pow7.62
pins: 1 +, 2 -

## pow2302
designator pow, comment 3V
footprint CR2302_2
pins: 1, 2

## POW_D13
designator *
footprint POW_D12
pins: 1, 2

## POWER
designator POWER?, comment BATTER  (value not drawn)
footprint BATTER
pins: 1 (power) "+", 2 (power)

## POWER2
designator power?
footprint power2
pins: 1 +, 2 -

## POWER3
designator *
footprint power3
pins: 1 +, 2 -

## POWER3V3
designator POWER?
footprint POW3V3
pins: 1 VIN, 2 VOUT, 3 GND

## power4
designator *
footprint Power_4
pins: 1 V+, 2 G, 3 NC

## R
designator R?, comment 10K
footprint R0805
pins: 1, 2

## R5W
designator R?, comment 100R/5W
footprint Axial 1.7
pins: 1, 2

## R0805
designator R?, comment 10K
footprint res0805
pins: 1, 2

## R_0603
designator R?, comment R
footprint R_0603
pins: 1, 2

## R_W
designator W?
footprint W
pins: 0, 1, 2, 3
text: W

## RA
designator R?, comment 1M
footprint 1206
pins: 1, 2

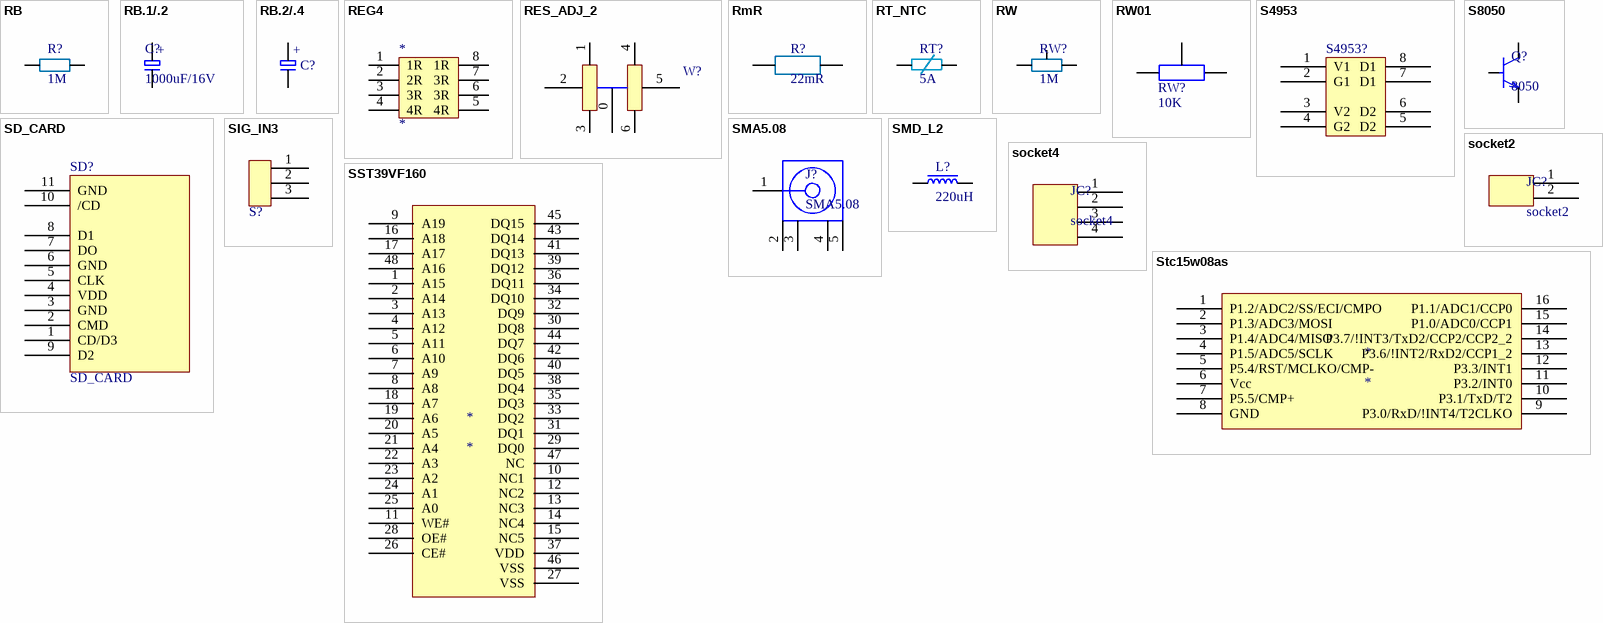
[diagram p4: symbols RB to Stc15w08as]

## RB
designator R?, comment 1M
footprint 1210
pins: 1, 2

## RB.1/.2
designator C?, comment 1000uF/16V
footprint RB.1/.2
pins: 1, 2
text: +

## RB.2/.4
designator C?  (value not drawn)
footprint RB.2/.4
pins: 1, 2
text: +

## REG4
designator *
footprint SOP8_R
pins: 1 1R, 2 2R, 3 3R, 4 4R, 5 4R, 6 3R, 7 3R, 8 1R

## RES_ADJ_2
designator W?
footprint RES_ADJ2
pins: 0, 1, 2, 3, 4, 5, 6

## RmR
designator R?, comment 22mR
footprint R_0022R
pins: 1, 2

## RT_NTC
designator RT?, comment 5A
footprint RAD0.3
pins: 1, 2

## RW
designator RW?, comment 1M
footprint RW
pins: 1, 2, 3

## RW01
designator RW?, comment 10K
footprint RW - 3
pins: 1, 2, 3

## S4953
designator S4953?
footprint SOP8
pins: 1 V1, 2 G1, 3 V2, 4 G2, 5 D2, 6 D2, 7 D1, 8 D1

## S8050
designator Q?, comment 8050
footprint SOT23
pins: B, C, E

## SD_CARD
designator SD?
footprint SD_CARD
pins: 1 CD/D3, 2 CMD, 3 GND, 4 VDD, 5 CLK, 6 GND, 7 DO, 8 D1, 9 D2, 10 /CD, 11 GND

## SIG_IN3
designator S?
footprint SIG_3
pins: 1, 2, 3

## SMA5.08
designator J?
footprint SMA5.08
pins: 1, 2, 3, 4, 5

## SMD_L2
designator L?, comment 220uH
footprint SMD_L2
pins: 1, 2

## socket2
designator JC?
footprint socket2_2.54
pins: 1, 2

## socket4
designator JC?
footprint socket4_2.54
pins: 1, 2, 3, 4

## SST39VF160
designator *
footprint TSOP48
pins: 1 A15, 2 A14, 3 A13, 4 A12, 5 A11, 6 A10, 7 A9, 8 A8, 9 A19, 10 NC1, 11 WE#, 12 NC2, 13 NC3, 14 NC4, 15 NC5, 16 A18, 17 A17, 18 A7, 19 A6, 20 A5, 21 A4, 22 A3, 23 A2, 24 A1, 25 A0, 26 CE#, 27 VSS, 28 OE#, 29 DQ0, 30 DQ8, 31 DQ1, 32 DQ9, 33 DQ2, 34 DQ10, 35 DQ3, 36 DQ11, 37 VDD, 38 DQ4, 39 DQ12, 40 DQ5, 41 DQ13, 42 DQ6, 43 DQ14, 44 DQ7, 45 DQ15, 46 VSS, 47 NC, 48 A16

## Stc15w08as
designator *
footprint SOP16
pins: 1 P1.2/ADC2/SS/ECI/CMPO, 2 P1.3/ADC3/MOSI, 3 P1.4/ADC4/MISO, 4 P1.5/ADC5/SCLK, 5 P5.4/RST/MCLKO/CMP-, 6 Vcc, 7 P5.5/CMP+, 8 GND, 9 P3.0/RxD/!INT4/T2CLKO, 10 P3.1/TxD/T2, 11 P3.2/INT0, 12 P3.3/INT1, 13 P3.6/!INT2/RxD2/CCP1_2, 14 P3.7/!INT3/TxD2/CCP2/CCP2_2, 15 P1.0/ADC0/CCP1, 16 P1.1/ADC1/CCP0

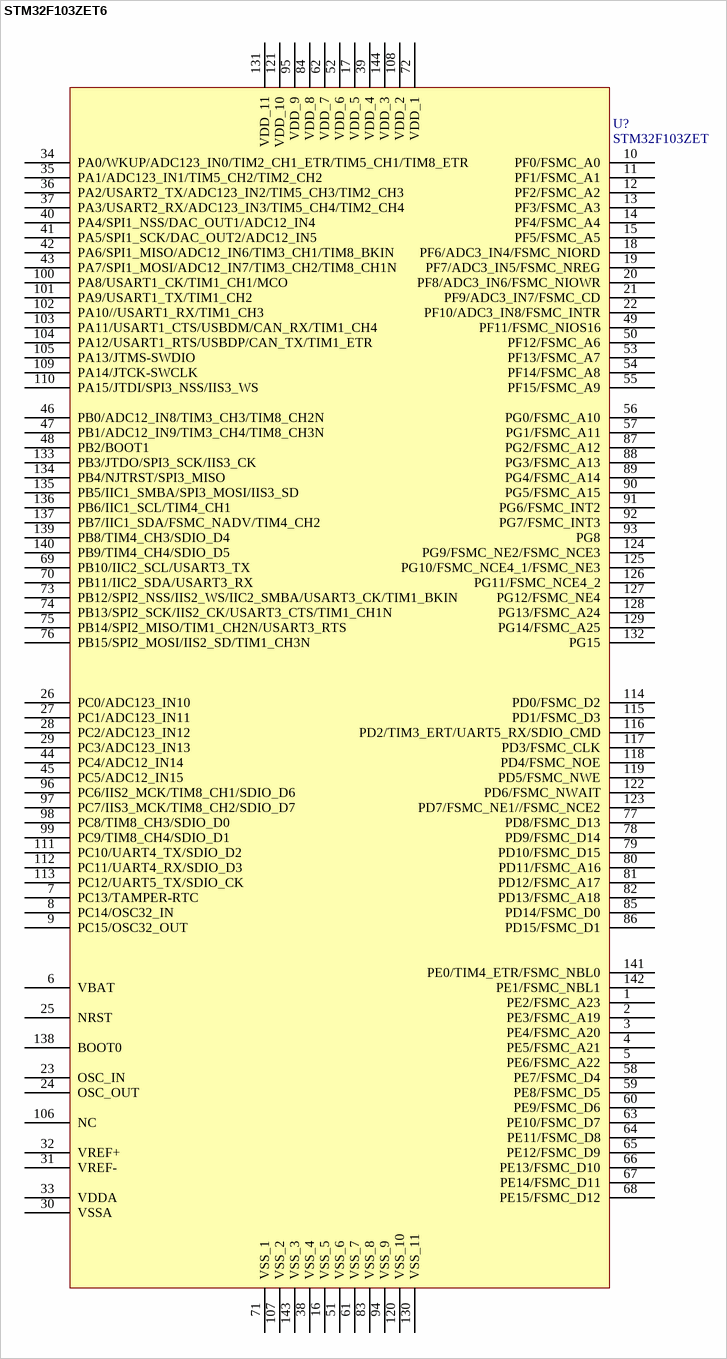
[diagram p5: symbol STM32F103ZET6]

## STM32F103ZET6
designator U?, comment STM32F103ZET
footprint LQFP144
pins: 1 PE2/FSMC_A23, 2 PE3/FSMC_A19, 3 PE4/FSMC_A20, 4 PE5/FSMC_A21, 5 PE6/FSMC_A22, 6 VBAT, 7 PC13/TAMPER-RTC, 8 PC14/OSC32_IN, 9 PC15/OSC32_OUT, 10 PF0/FSMC_A0, 11 PF1/FSMC_A1, 12 PF2/FSMC_A2, 13 PF3/FSMC_A3, 14 PF4/FSMC_A4, 15 PF5/FSMC_A5, 16 VSS_5, 17 VDD_5, 18 PF6/ADC3_IN4/FSMC_NIORD, 19 PF7/ADC3_IN5/FSMC_NREG, 20 PF8/ADC3_IN6/FSMC_NIOWR, 21 PF9/ADC3_IN7/FSMC_CD, 22 PF10/ADC3_IN8/FSMC_INTR, 23 OSC_IN, 24 OSC_OUT, 25 NRST, 26 PC0/ADC123_IN10, 27 PC1/ADC123_IN11, 28 PC2/ADC123_IN12, 29 PC3/ADC123_IN13, 30 VSSA, 31 VREF-, 32 VREF+, 33 VDDA, 34 PA0/WKUP/ADC123_IN0/TIM2_CH1_ETR/TIM5_CH1/TIM8_ETR, 35 PA1/ADC123_IN1/TIM5_CH2/TIM2_CH2, 36 PA2/USART2_TX/ADC123_IN2/TIM5_CH3/TIM2_CH3, 37 PA3/USART2_RX/ADC123_IN3/TIM5_CH4/TIM2_CH4, 38 VSS_4, 39 VDD_4, 40 PA4/SPI1_NSS/DAC_OUT1/ADC12_IN4, 41 PA5/SPI1_SCK/DAC_OUT2/ADC12_IN5, 42 PA6/SPI1_MISO/ADC12_IN6/TIM3_CH1/TIM8_BKIN, 43 PA7/SPI1_MOSI/ADC12_IN7/TIM3_CH2/TIM8_CH1N, 44 PC4/ADC12_IN14, 45 PC5/ADC12_IN15, 46 PB0/ADC12_IN8/TIM3_CH3/TIM8_CH2N, 47 PB1/ADC12_IN9/TIM3_CH4/TIM8_CH3N, 48 PB2/BOOT1, 49 PF11/FSMC_NIOS16, 50 PF12/FSMC_A6, 51 VSS_6, 52 VDD_6, 53 PF13/FSMC_A7, 54 PF14/FSMC_A8, 55 PF15/FSMC_A9, 56 PG0/FSMC_A10, 57 PG1/FSMC_A11, 58 PE7/FSMC_D4, 59 PE8/FSMC_D5, 60 PE9/FSMC_D6, 61 VSS_7, 62 VDD_7, 63 PE10/FSMC_D7, 64 PE11/FSMC_D8, 65 PE12/FSMC_D9, 66 PE13/FSMC_D10, 67 PE14/FSMC_D11, 68 PE15/FSMC_D12, 69 PB10/IIC2_SCL/USART3_TX, 70 PB11/IIC2_SDA/USART3_RX, 71 VSS_1, 72 VDD_1, 73 PB12/SPI2_NSS/IIS2_WS/IIC2_SMBA/USART3_CK/TIM1_BKIN, 74 PB13/SPI2_SCK/IIS2_CK/USART3_CTS/TIM1_CH1N, 75 PB14/SPI2_MISO/TIM1_CH2N/USART3_RTS, 76 PB15/SPI2_MOSI/IIS2_SD/TIM1_CH3N, 77 PD8/FSMC_D13, 78 PD9/FSMC_D14, 79 PD10/FSMC_D15, 80 PD11/FSMC_A16, 81 PD12/FSMC_A17, 82 PD13/FSMC_A18, 83 VSS_8, 84 VDD_8, 85 PD14/FSMC_D0, 86 PD15/FSMC_D1, 87 PG2/FSMC_A12, 88 PG3/FSMC_A13, 89 PG4/FSMC_A14, 90 PG5/FSMC_A15, 91 PG6/FSMC_INT2, 92 PG7/FSMC_INT3, 93 PG8, 94 VSS_9, 95 VDD_9, 96 PC6/IIS2_MCK/TIM8_CH1/SDIO_D6, 97 PC7/IIS3_MCK/TIM8_CH2/SDIO_D7, 98 PC8/TIM8_CH3/SDIO_D0, 99 PC9/TIM8_CH4/SDIO_D1, 100 PA8/USART1_CK/TIM1_CH1/MCO, 101 PA9/USART1_TX/TIM1_CH2, 102 PA10//USART1_RX/TIM1_CH3, 103 PA11/USART1_CTS/USBDM/CAN_RX/TIM1_CH4, 104 PA12/USART1_RTS/USBDP/CAN_TX/TIM1_ETR, 105 PA13/JTMS-SWDIO, 106 NC, 107 VSS_2, 108 VDD_2, 109 PA14/JTCK-SWCLK, 110 PA15/JTDI/SPI3_NSS/IIS3_WS, 111 PC10/UART4_TX/SDIO_D2, 112 PC11/UART4_RX/SDIO_D3, 113 PC12/UART5_TX/SDIO_CK, 114 PD0/FSMC_D2, 115 PD1/FSMC_D3, 116 PD2/TIM3_ERT/UART5_RX/SDIO_CMD, 117 PD3/FSMC_CLK, 118 PD4/FSMC_NOE, 119 PD5/FSMC_NWE, 120 VSS_10, 121 VDD_10, 122 PD6/FSMC_NWAIT, 123 PD7/FSMC_NE1//FSMC_NCE2, 124 PG9/FSMC_NE2/FSMC_NCE3, 125 PG10/FSMC_NCE4_1/FSMC_NE3, 126 PG11/FSMC_NCE4_2, 127 PG12/FSMC_NE4, 128 PG13/FSMC_A24, 129 PG14/FSMC_A25, 130 VSS_11, 131 VDD_11, 132 PG15, 133 PB3/JTDO/SPI3_SCK/IIS3_CK, 134 PB4/NJTRST/SPI3_MISO, 135 PB5/IIC1_SMBA/SPI3_MOSI/IIS3_SD, 136 PB6/IIC1_SCL/TIM4_CH1, 137 PB7/IIC1_SDA/FSMC_NADV/TIM4_CH2, 138 BOOT0, 139 PB8/TIM4_CH3/SDIO_D4, 140 PB9/TIM4_CH4/SDIO_D5, 141 PE0/TIM4_ETR/FSMC_NBL0, 142 PE1/FSMC_NBL1, 143 VSS_3, 144 VDD_3

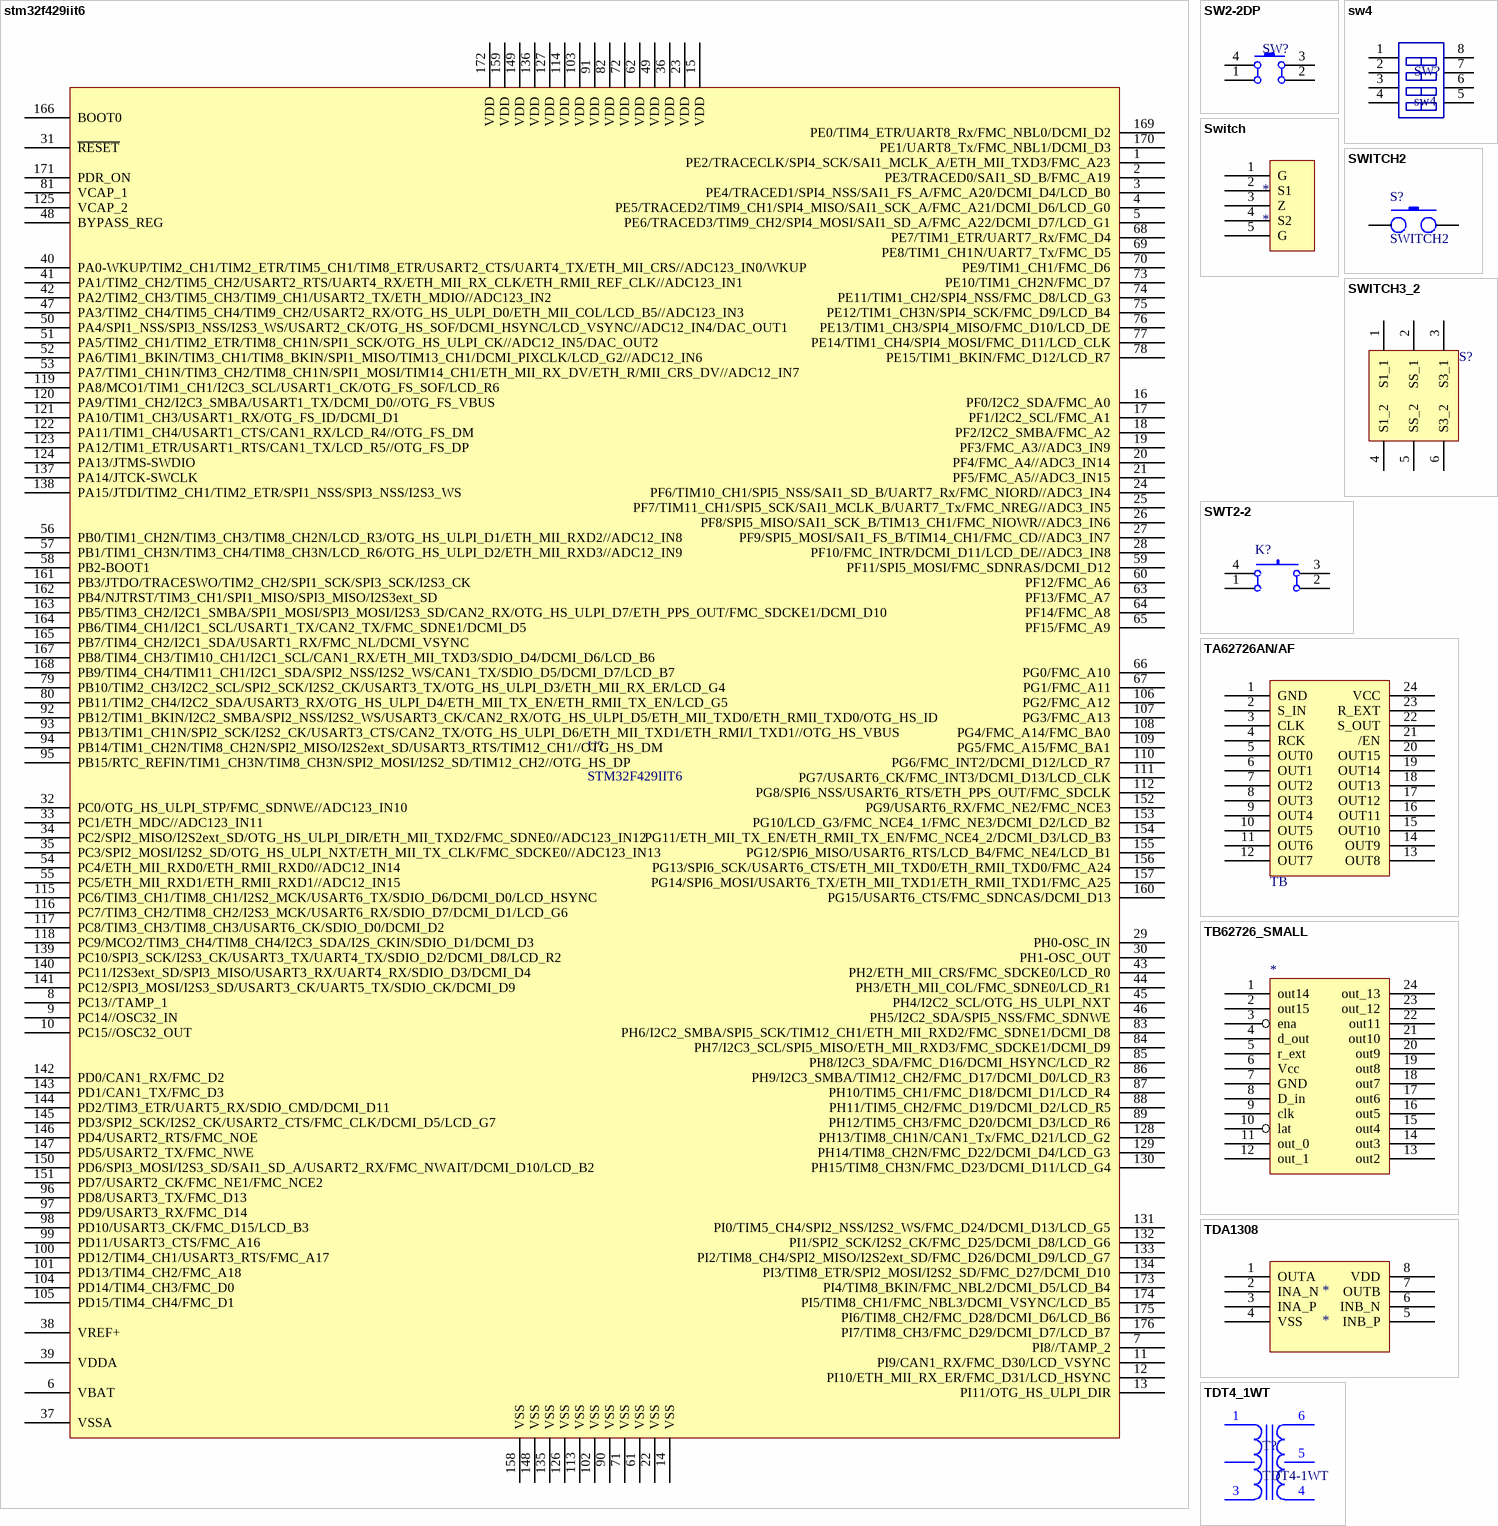
[diagram p6: symbols stm32f429iit6 to TDT4_1WT]

## stm32f429iit6
designator U?, comment STM32F429IIT6
footprint LQFP176
pins: 1 PE2/TRACECLK/SPI4_SCK/SAI1_MCLK_A/ETH_MII_TXD3/FMC_A23, 2 PE3/TRACED0/SAI1_SD_B/FMC_A19, 3 PE4/TRACED1/SPI4_NSS/SAI1_FS_A/FMC_A20/DCMI_D4/LCD_B0, 4 PE5/TRACED2/TIM9_CH1/SPI4_MISO/SAI1_SCK_A/FMC_A21/DCMI_D6/LCD_G0, 5 PE6/TRACED3/TIM9_CH2/SPI4_MOSI/SAI1_SD_A/FMC_A22/DCMI_D7/LCD_G1, 6 VBAT, 7 PI8//TAMP_2, 8 PC13//TAMP_1, 9 PC14//OSC32_IN, 10 PC15//OSC32_OUT, 11 PI9/CAN1_RX/FMC_D30/LCD_VSYNC, 12 PI10/ETH_MII_RX_ER/FMC_D31/LCD_HSYNC, 13 PI11/OTG_HS_ULPI_DIR, 14 VSS, 15 VDD, 16 PF0/I2C2_SDA/FMC_A0, 17 PF1/I2C2_SCL/FMC_A1, 18 PF2/I2C2_SMBA/FMC_A2, 19 PF3/FMC_A3//ADC3_IN9, 20 PF4/FMC_A4//ADC3_IN14, 21 PF5/FMC_A5//ADC3_IN15, 22 VSS, 23 VDD, 24 PF6/TIM10_CH1/SPI5_NSS/SAI1_SD_B/UART7_Rx/FMC_NIORD//ADC3_IN4, 25 PF7/TIM11_CH1/SPI5_SCK/SAI1_MCLK_B/UART7_Tx/FMC_NREG//ADC3_IN5, 26 PF8/SPI5_MISO/SAI1_SCK_B/TIM13_CH1/FMC_NIOWR//ADC3_IN6, 27 PF9/SPI5_MOSI/SAI1_FS_B/TIM14_CH1/FMC_CD//ADC3_IN7, 28 PF10/FMC_INTR/DCMI_D11/LCD_DE//ADC3_IN8, 29 PH0-OSC_IN, 30 PH1-OSC_OUT, 31 ~{RESET}, 32 PC0/OTG_HS_ULPI_STP/FMC_SDNWE//ADC123_IN10, 33 PC1/ETH_MDC//ADC123_IN11, 34 PC2/SPI2_MISO/I2S2ext_SD/OTG_HS_ULPI_DIR/ETH_MII_TXD2/FMC_SDNE0//ADC123_IN12, 35 PC3/SPI2_MOSI/I2S2_SD/OTG_HS_ULPI_NXT/ETH_MII_TX_CLK/FMC_SDCKE0//ADC123_IN13, 36 VDD, 37 VSSA, 38 VREF+, 39 VDDA, 40 PA0-WKUP/TIM2_CH1/TIM2_ETR/TIM5_CH1/TIM8_ETR/USART2_CTS/UART4_TX/ETH_MII_CRS//ADC123_IN0/WKUP, 41 PA1/TIM2_CH2/TIM5_CH2/USART2_RTS/UART4_RX/ETH_MII_RX_CLK/ETH_RMII_REF_CLK//ADC123_IN1, 42 PA2/TIM2_CH3/TIM5_CH3/TIM9_CH1/USART2_TX/ETH_MDIO//ADC123_IN2, 43 PH2/ETH_MII_CRS/FMC_SDCKE0/LCD_R0, 44 PH3/ETH_MII_COL/FMC_SDNE0/LCD_R1, 45 PH4/I2C2_SCL/OTG_HS_ULPI_NXT, 46 PH5/I2C2_SDA/SPI5_NSS/FMC_SDNWE, 47 PA3/TIM2_CH4/TIM5_CH4/TIM9_CH2/USART2_RX/OTG_HS_ULPI_D0/ETH_MII_COL/LCD_B5//ADC123_IN3, 48 BYPASS_REG, 49 VDD, 50 PA4/SPI1_NSS/SPI3_NSS/I2S3_WS/USART2_CK/OTG_HS_SOF/DCMI_HSYNC/LCD_VSYNC//ADC12_IN4/DAC_OUT1, 51 PA5/TIM2_CH1/TIM2_ETR/TIM8_CH1N/SPI1_SCK/OTG_HS_ULPI_CK//ADC12_IN5/DAC_OUT2, 52 PA6/TIM1_BKIN/TIM3_CH1/TIM8_BKIN/SPI1_MISO/TIM13_CH1/DCMI_PIXCLK/LCD_G2//ADC12_IN6, 53 PA7/TIM1_CH1N/TIM3_CH2/TIM8_CH1N/SPI1_MOSI/TIM14_CH1/ETH_MII_RX_DV/ETH_R/MII_CRS_DV//ADC12_IN7, 54 PC4/ETH_MII_RXD0/ETH_RMII_RXD0//ADC12_IN14, 55 PC5/ETH_MII_RXD1/ETH_RMII_RXD1//ADC12_IN15, 56 PB0/TIM1_CH2N/TIM3_CH3/TIM8_CH2N/LCD_R3/OTG_HS_ULPI_D1/ETH_MII_RXD2//ADC12_IN8, 57 PB1/TIM1_CH3N/TIM3_CH4/TIM8_CH3N/LCD_R6/OTG_HS_ULPI_D2/ETH_MII_RXD3//ADC12_IN9, 58 PB2-BOOT1, 59 PF11/SPI5_MOSI/FMC_SDNRAS/DCMI_D12, 60 PF12/FMC_A6, 61 VSS, 62 VDD, 63 PF13/FMC_A7, 64 PF14/FMC_A8, 65 PF15/FMC_A9, 66 PG0/FMC_A10, 67 PG1/FMC_A11, 68 PE7/TIM1_ETR/UART7_Rx/FMC_D4, 69 PE8/TIM1_CH1N/UART7_Tx/FMC_D5, 70 PE9/TIM1_CH1/FMC_D6, 71 VSS, 72 VDD, 73 PE10/TIM1_CH2N/FMC_D7, 74 PE11/TIM1_CH2/SPI4_NSS/FMC_D8/LCD_G3, 75 PE12/TIM1_CH3N/SPI4_SCK/FMC_D9/LCD_B4, 76 PE13/TIM1_CH3/SPI4_MISO/FMC_D10/LCD_DE, 77 PE14/TIM1_CH4/SPI4_MOSI/FMC_D11/LCD_CLK, 78 PE15/TIM1_BKIN/FMC_D12/LCD_R7, 79 PB10/TIM2_CH3/I2C2_SCL/SPI2_SCK/I2S2_CK/USART3_TX/OTG_HS_ULPI_D3/ETH_MII_RX_ER/LCD_G4, 80 PB11/TIM2_CH4/I2C2_SDA/USART3_RX/OTG_HS_ULPI_D4/ETH_MII_TX_EN/ETH_RMII_TX_EN/LCD_G5, 81 VCAP_1, 82 VDD, 83 PH6/I2C2_SMBA/SPI5_SCK/TIM12_CH1/ETH_MII_RXD2/FMC_SDNE1/DCMI_D8, 84 PH7/I2C3_SCL/SPI5_MISO/ETH_MII_RXD3/FMC_SDCKE1/DCMI_D9, 85 PH8/I2C3_SDA/FMC_D16/DCMI_HSYNC/LCD_R2, 86 PH9/I2C3_SMBA/TIM12_CH2/FMC_D17/DCMI_D0/LCD_R3, 87 PH10/TIM5_CH1/FMC_D18/DCMI_D1/LCD_R4, 88 PH11/TIM5_CH2/FMC_D19/DCMI_D2/LCD_R5, 89 PH12/TIM5_CH3/FMC_D20/DCMI_D3/LCD_R6, 90 VSS, 91 VDD, 92 PB12/TIM1_BKIN/I2C2_SMBA/SPI2_NSS/I2S2_WS/USART3_CK/CAN2_RX/OTG_HS_ULPI_D5/ETH_MII_TXD0/ETH_RMII_TXD0/OTG_HS_ID, 93 PB13/TIM1_CH1N/SPI2_SCK/I2S2_CK/USART3_CTS/CAN2_TX/OTG_HS_ULPI_D6/ETH_MII_TXD1/ETH_RMI/I_TXD1//OTG_HS_VBUS, 94 PB14/TIM1_CH2N/TIM8_CH2N/SPI2_MISO/I2S2ext_SD/USART3_RTS/TIM12_CH1//OTG_HS_DM, 95 PB15/RTC_REFIN/TIM1_CH3N/TIM8_CH3N/SPI2_MOSI/I2S2_SD/TIM12_CH2//OTG_HS_DP, 96 PD8/USART3_TX/FMC_D13, 97 PD9/USART3_RX/FMC_D14, 98 PD10/USART3_CK/FMC_D15/LCD_B3, 99 PD11/USART3_CTS/FMC_A16, 100 PD12/TIM4_CH1/USART3_RTS/FMC_A17, 101 PD13/TIM4_CH2/FMC_A18, 102 VSS, 103 VDD, 104 PD14/TIM4_CH3/FMC_D0, 105 PD15/TIM4_CH4/FMC_D1, 106 PG2/FMC_A12, 107 PG3/FMC_A13, 108 PG4/FMC_A14/FMC_BA0, 109 PG5/FMC_A15/FMC_BA1, 110 PG6/FMC_INT2/DCMI_D12/LCD_R7, 111 PG7/USART6_CK/FMC_INT3/DCMI_D13/LCD_CLK, 112 PG8/SPI6_NSS/USART6_RTS/ETH_PPS_OUT/FMC_SDCLK, 113 VSS, 114 VDD, 115 PC6/TIM3_CH1/TIM8_CH1/I2S2_MCK/USART6_TX/SDIO_D6/DCMI_D0/LCD_HSYNC, 116 PC7/TIM3_CH2/TIM8_CH2/I2S3_MCK/USART6_RX/SDIO_D7/DCMI_D1/LCD_G6, 117 PC8/TIM3_CH3/TIM8_CH3/USART6_CK/SDIO_D0/DCMI_D2, 118 PC9/MCO2/TIM3_CH4/TIM8_CH4/I2C3_SDA/I2S_CKIN/SDIO_D1/DCMI_D3, 119 PA8/MCO1/TIM1_CH1/I2C3_SCL/USART1_CK/OTG_FS_SOF/LCD_R6, 120 PA9/TIM1_CH2/I2C3_SMBA/USART1_TX/DCMI_D0//OTG_FS_VBUS, 121 PA10/TIM1_CH3/USART1_RX/OTG_FS_ID/DCMI_D1, 122 PA11/TIM1_CH4/USART1_CTS/CAN1_RX/LCD_R4//OTG_FS_DM, 123 PA12/TIM1_ETR/USART1_RTS/CAN1_TX/LCD_R5//OTG_FS_DP, 124 PA13/JTMS-SWDIO, 125 VCAP_2, 126 VSS, 127 VDD, 128 PH13/TIM8_CH1N/CAN1_Tx/FMC_D21/LCD_G2, 129 PH14/TIM8_CH2N/FMC_D22/DCMI_D4/LCD_G3, 130 PH15/TIM8_CH3N/FMC_D23/DCMI_D11/LCD_G4, 131 PI0/TIM5_CH4/SPI2_NSS/I2S2_WS/FMC_D24/DCMI_D13/LCD_G5, 132 PI1/SPI2_SCK/I2S2_CK/FMC_D25/DCMI_D8/LCD_G6, 133 PI2/TIM8_CH4/SPI2_MISO/I2S2ext_SD/FMC_D26/DCMI_D9/LCD_G7, 134 PI3/TIM8_ETR/SPI2_MOSI/I2S2_SD/FMC_D27/DCMI_D10, 135 VSS, 136 VDD, 137 PA14/JTCK-SWCLK, 138 PA15/JTDI/TIM2_CH1/TIM2_ETR/SPI1_NSS/SPI3_NSS/I2S3_WS, 139 PC10/SPI3_SCK/I2S3_CK/USART3_TX/UART4_TX/SDIO_D2/DCMI_D8/LCD_R2, 140 PC11/I2S3ext_SD/SPI3_MISO/USART3_RX/UART4_RX/SDIO_D3/DCMI_D4, 141 PC12/SPI3_MOSI/I2S3_SD/USART3_CK/UART5_TX/SDIO_CK/DCMI_D9, 142 PD0/CAN1_RX/FMC_D2, 143 PD1/CAN1_TX/FMC_D3, 144 PD2/TIM3_ETR/UART5_RX/SDIO_CMD/DCMI_D11, 145 PD3/SPI2_SCK/I2S2_CK/USART2_CTS/FMC_CLK/DCMI_D5/LCD_G7, 146 PD4/USART2_RTS/FMC_NOE, 147 PD5/USART2_TX/FMC_NWE, 148 VSS, 149 VDD, 150 PD6/SPI3_MOSI/I2S3_SD/SAI1_SD_A/USART2_RX/FMC_NWAIT/DCMI_D10/LCD_B2, 151 PD7/USART2_CK/FMC_NE1/FMC_NCE2, 152 PG9/USART6_RX/FMC_NE2/FMC_NCE3, 153 PG10/LCD_G3/FMC_NCE4_1/FMC_NE3/DCMI_D2/LCD_B2, 154 PG11/ETH_MII_TX_EN/ETH_RMII_TX_EN/FMC_NCE4_2/DCMI_D3/LCD_B3, 155 PG12/SPI6_MISO/USART6_RTS/LCD_B4/FMC_NE4/LCD_B1, 156 PG13/SPI6_SCK/USART6_CTS/ETH_MII_TXD0/ETH_RMII_TXD0/FMC_A24, 157 PG14/SPI6_MOSI/USART6_TX/ETH_MII_TXD1/ETH_RMII_TXD1/FMC_A25, 158 VSS, 159 VDD, 160 PG15/USART6_CTS/FMC_SDNCAS/DCMI_D13, 161 PB3/JTDO/TRACESWO/TIM2_CH2/SPI1_SCK/SPI3_SCK/I2S3_CK, 162 PB4/NJTRST/TIM3_CH1/SPI1_MISO/SPI3_MISO/I2S3ext_SD, 163 PB5/TIM3_CH2/I2C1_SMBA/SPI1_MOSI/SPI3_MOSI/I2S3_SD/CAN2_RX/OTG_HS_ULPI_D7/ETH_PPS_OUT/FMC_SDCKE1/DCMI_D10, 164 PB6/TIM4_CH1/I2C1_SCL/USART1_TX/CAN2_TX/FMC_SDNE1/DCMI_D5, 165 PB7/TIM4_CH2/I2C1_SDA/USART1_RX/FMC_NL/DCMI_VSYNC, 166 BOOT0, 167 PB8/TIM4_CH3/TIM10_CH1/I2C1_SCL/CAN1_RX/ETH_MII_TXD3/SDIO_D4/DCMI_D6/LCD_B6, 168 PB9/TIM4_CH4/TIM11_CH1/I2C1_SDA/SPI2_NSS/I2S2_WS/CAN1_TX/SDIO_D5/DCMI_D7/LCD_B7, 169 PE0/TIM4_ETR/UART8_Rx/FMC_NBL0/DCMI_D2, 170 PE1/UART8_Tx/FMC_NBL1/DCMI_D3, 171 PDR_ON, 172 VDD, 173 PI4/TIM8_BKIN/FMC_NBL2/DCMI_D5/LCD_B4, 174 PI5/TIM8_CH1/FMC_NBL3/DCMI_VSYNC/LCD_B5, 175 PI6/TIM8_CH2/FMC_D28/DCMI_D6/LCD_B6, 176 PI7/TIM8_CH3/FMC_D29/DCMI_D7/LCD_B7

## SW2-2DP
designator SW?
footprint SW2-2-DP
pins: 1, 2, 3, 4

## sw4
designator SW?
footprint SW_4
pins: 1, 2, 3, 4, 5, 6, 7, 8

## Switch
designator *
footprint Switch_pcb
pins: 1 G, 2 S1, 3 Z, 4 S2, 5 G

## SWITCH2
designator S?
footprint TSDE-062510
pins: 1, 2

## SWITCH3_2
designator S?
footprint SWITCH3_2
pins: 1 S1_1, 2 SS_1, 3 S3_1, 4 S1_2, 5 SS_2, 6 S3_2

## SWT2-2
designator K?
footprint SWT2_2
pins: 1, 2, 3, 4

## TA62726AN/AF
designator TB
footprint SSOP24-300-1.00B
pins: 1 GND, 2 S_IN, 3 CLK, 4 RCK, 5 OUT0, 6 OUT1, 7 OUT2, 8 OUT3, 9 OUT4, 10 OUT5, 11 OUT6, 12 OUT7, 13 OUT8, 14 OUT9, 15 OUT10, 16 OUT11, 17 OUT12, 18 OUT13, 19 OUT14, 20 OUT15, 21 /EN, 22 S_OUT, 23 R_EXT, 24 VCC

## TB62726_SMALL
designator *
footprint SOP24_62726S
pins: 1 out14, 2 out15, 3 ena, 4 d_out, 5 r_ext, 6 Vcc, 7 GND, 8 D_in, 9 clk, 10 lat, 11 out_0, 12 out_1, 13 out2, 14 out3, 15 out4, 16 out5, 17 out6, 18 out7, 19 out8, 20 out9, 21 out10, 22 out11, 23 out_12, 24 out_13

## TDA1308
designator *
footprint SO8
pins: 1 OUTA, 2 INA_N, 3 INA_P, 4 VSS, 5 INB_P, 6 INB_N, 7 OUTB, 8 VDD

## TDT4_1WT
designator T?, comment TDT4-1WT
footprint TDT4_1WT
pins: 1, 2, 3, 4, 5, 6

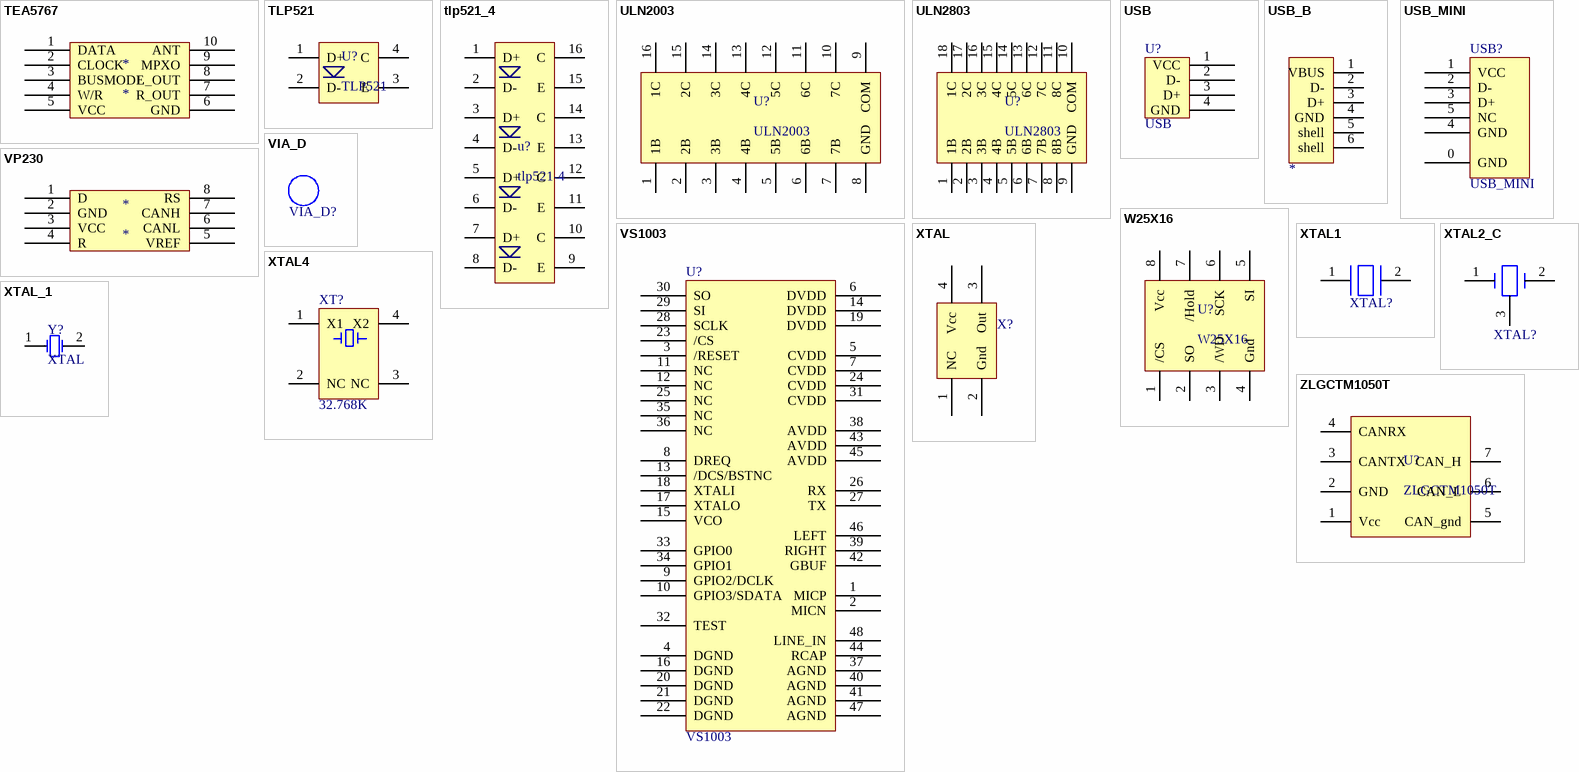
[diagram p7: symbols TEA5767 to ZLGCTM1050T]

## TEA5767
designator *
pins: 1 DATA, 2 CLOCK, 3 BUSMODE, 4 W/R, 5 VCC, 6 GND, 7 R_OUT, 8 L_OUT, 9 MPXO, 10 ANT

## TLP521
designator U?
footprint DIP4
pins: 1 D+, 2 D-, 3 E, 4 C

## tlp521_4
designator u?, comment tlp521-4
footprint DIP16
pins: 1 D+, 2 D-, 3 D+, 4 D-, 5 D+, 6 D-, 7 D+, 8 D-, 9 E, 10 C, 11 E, 12 C, 13 E, 14 C, 15 E, 16 C

## ULN2003
designator U?
footprint SOP16
pins: 1 1B, 2 2B, 3 3B, 4 4B, 5 5B, 6 6B, 7 7B, 8 GND, 9 COM, 10 7C, 11 6C, 12 5C, 13 4C, 14 3C, 15 2C, 16 1C

## ULN2803
designator U?
footprint SOP-18N (SOIC, 18-Leads, Body 11.55x7.50mm, Pitch 1.27mm, IPC Medium Density)
pins: 1 1B, 2 2B, 3 3B, 4 4B, 5 5B, 6 6B, 7 7B, 8 8B, 9 GND, 10 COM, 11 8C, 12 7C, 13 6C, 14 5C, 15 4C, 16 3C, 17 2C, 18 1C

## USB
designator U?
footprint USB
pins: 1 VCC, 2 D-, 3 D+, 4 GND

## USB_B
designator ?
footprint USB-B
pins: 1 VBUS, 2 D-, 3 D+, 4 GND, 5 shell, 6 shell

## USB_MINI
designator USB?
footprint USB_MINI
pins: 0 GND, 1 VCC, 2 D-, 3 D+, 4 GND, 5 NC

## VIA_D
designator VIA_D?
footprint VIA_D3

## VP230
designator *
footprint SO8
pins: 1 D, 2 GND, 3 VCC, 4 R, 5 VREF, 6 CANL, 7 CANH, 8 RS

## VS1003
designator U?
footprint LQFP48
pins: 1 MICP, 2 MICN, 3 /RESET, 4 DGND, 5 CVDD, 6 DVDD, 7 CVDD, 8 DREQ, 9 GPIO2/DCLK, 10 GPIO3/SDATA, 11 NC, 12 NC, 13 /DCS/BSTNC, 14 DVDD, 15 VCO, 16 DGND, 17 XTALO, 18 XTALI, 19 DVDD, 20 DGND, 21 DGND, 22 DGND, 23 /CS, 24 CVDD, 25 NC, 26 RX, 27 TX, 28 SCLK, 29 SI, 30 SO, 31 CVDD, 32 TEST, 33 GPIO0, 34 GPIO1, 35 NC, 36 NC, 37 AGND, 38 AVDD, 39 RIGHT, 40 AGND, 41 AGND, 42 GBUF, 43 AVDD, 44 RCAP, 45 AVDD, 46 LEFT, 47 AGND, 48 LINE_IN

## W25X16
designator U?
footprint SOP8W
pins: 1 /CS, 2 SO, 3 /WD, 4 Gnd, 5 SI, 6 SCK, 7 /Hold, 8 Vcc

## XTAL
designator X?
footprint XT
pins: 1 NC, 2 Gnd, 3 Out, 4 Vcc

## XTAL1
designator XTAL?
footprint HC-49S
pins: 1, 2

## XTAL2_C
designator XTAL?
footprint xtal2_d
pins: 1, 2, 3

## XTAL4
designator XT?, comment 32.768K
footprint MM-20SS
pins: 1 X1, 2 NC, 3 NC, 4 X2

## XTAL_1
designator Y?, comment XTAL
footprint HC-49S
pins: 1, 2

## ZLGCTM1050T
designator U?
footprint ZLG_CTM1050T
pins: 1 Vcc, 2 GND, 3 CANTX, 4 CANRX, 5 CAN_gnd, 6 CAN_L, 7 CAN_H